# Altium schematic symbol library dungvh03-CERN_AnalogInterface.SchLib: 1053 symbols (part 10 of 12)
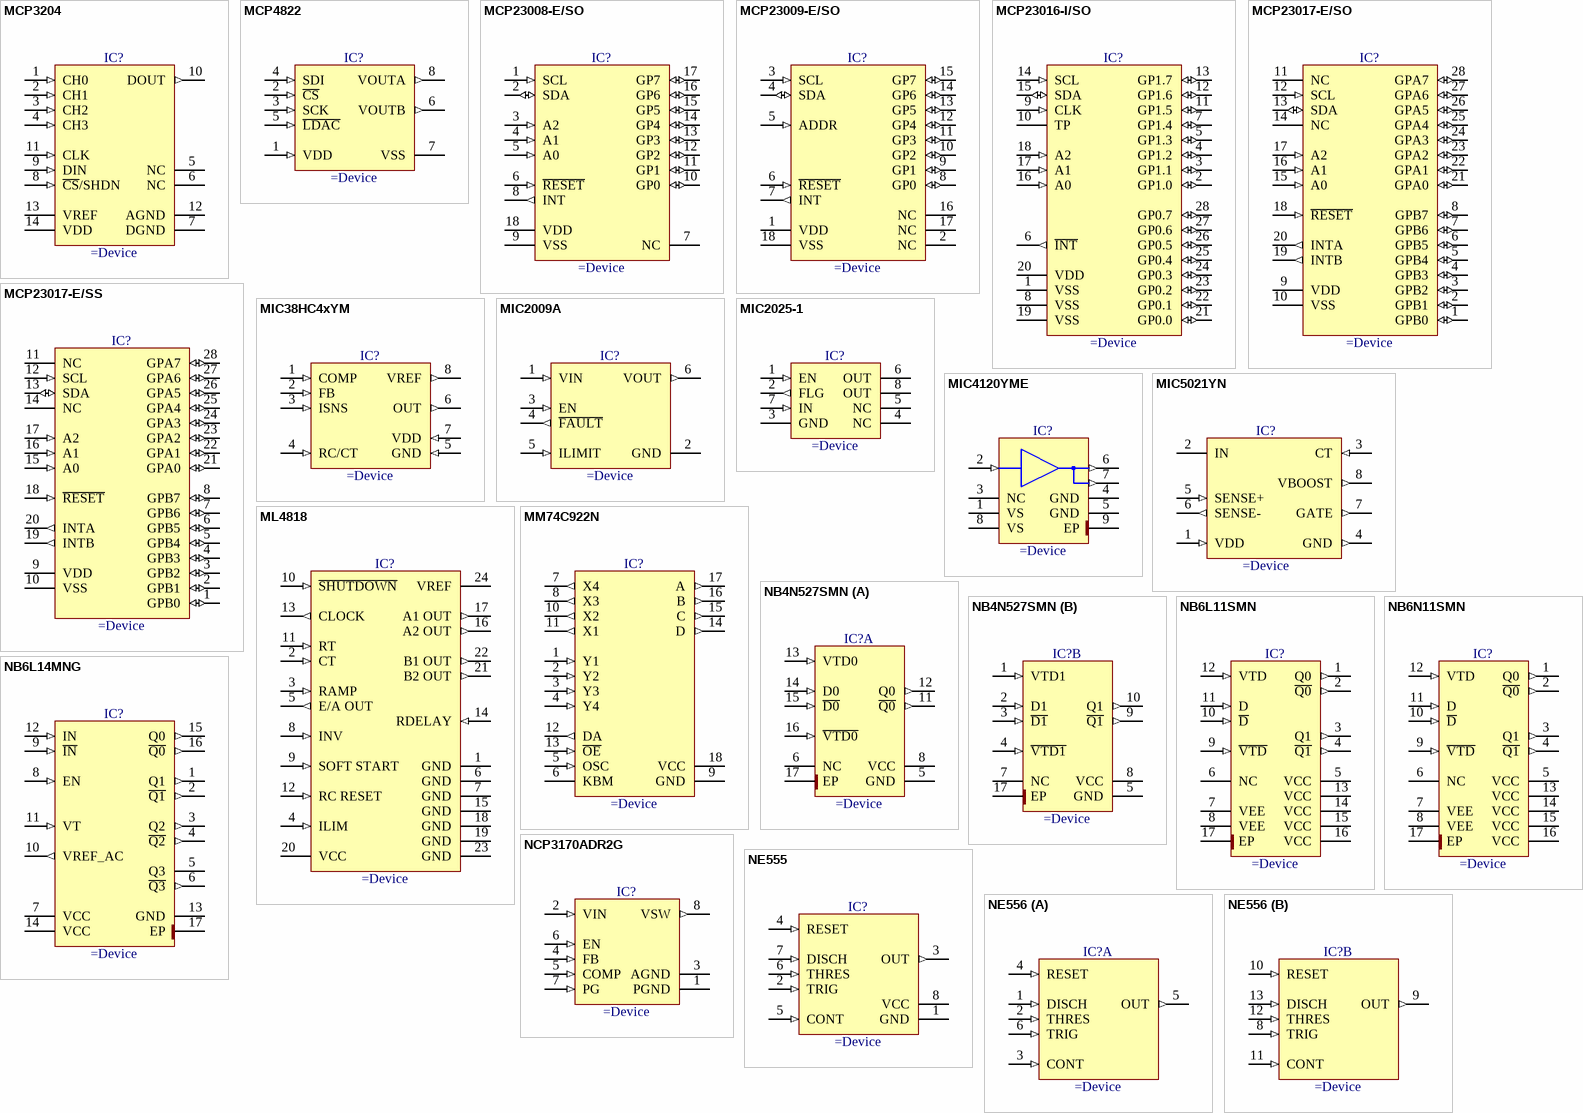
[diagram p76: symbols MCP3204 to NE556]

## MIC2009A
designator IC?
Adjustable Current Limiting Power Distribution Switches
pins: 1 VIN (in), 2 GND (power), 3 EN (in), 4 ~{FAULT} (out), 5 ILIMIT (in), 6 VOUT (out)

## MIC2025-1
designator IC?
Single-Channel Power Distribution Switch MM8®
pins: 1 EN (in), 2 FLG (out), 3 GND (power), 4 NC, 5 NC, 6 OUT (power), 7 IN (in), 8 OUT (power)

## MIC4120YME
designator IC?
6A Peak Low-Side MOSFET Driver, Non-Inverting Outputs
pins: 1 VS (power), 2 IN (in), 3 NC, 4 GND (power), 5 GND (power), 6 OUT (out), 7 OUT (out), 8 VS (power), 9 EP (power)

## MIC5021YN
designator IC?
High-Speed High-Side MOSFET Driver
pins: 1 VDD (in), 2 IN (power), 3 CT (in), 4 GND (out), 5 SENSE+ (in), 6 SENSE- (out), 7 GATE (out), 8 VBOOST (out)

## ML4818
designator IC?
Phase Modulation/Soft Switching Controller
pins: 1 GND (power), 2 CT (in), 3 RAMP (in), 4 ILIM (in), 5 E/A OUT (out), 6 GND (power), 7 GND (power), 8 INV (in), 9 SOFT START (in), 10 ~{SHUTDOWN} (in), 11 RT (in), 12 RC RESET (in), 13 CLOCK (out), 14 RDELAY (in), 15 GND (power), 16 A2 OUT (out), 17 A1 OUT (out), 18 GND (power), 19 GND (power), 20 VCC (power), 21 B2 OUT (out), 22 B1 OUT (out), 23 GND (power), 24 VREF (power)

## MM74C922N
designator IC?
16-Key Encoder
pins: 1 Y1 (in), 2 Y2 (in), 3 Y3 (in), 4 Y4 (in), 5 OSC (in), 6 KBM, 7 X4 (out), 8 X3 (out), 9 GND (power), 10 X2 (out), 11 X1 (out), 12 DA (out), 13 ~{OE} (in), 14 D (out), 15 C (out), 16 B (out), 17 A (out), 18 VCC (power)

## NB4N527SMN
designator IC?
3.3V, 2.5Gb/s Dual Any Level to LVDS Receiver/Driver/Buffer/Translator With Internal Input Termination
pins on every part: 5 GND (power), 8 VCC (power), 17 EP (power)
part A pins: 6 NC, 11 ~{Q0} (out), 12 Q0 (out), 13 VTD0 (in), 14 D0 (in), 15 ~{D0} (in), 16 ~{VTD0} (in)
part B pins: 1 VTD1 (in), 2 D1 (in), 3 ~{D1} (in), 4 ~{VTD1} (in), 7 NC, 9 ~{Q1} (out), 10 Q1 (out)

## NB6L11SMN
designator IC?
2.5V 1:2 AnyLevel Input to LVDS Fanout Buffer / Translator
pins: 1 Q0 (out), 2 ~{Q0} (out), 3 Q1 (out), 4 ~{Q1} (out), 5 VCC (power), 6 NC, 7 VEE (power), 8 VEE (power), 9 ~{VTD} (in), 10 ~{D} (in), 11 D (in), 12 VTD (in), 13 VCC (power), 14 VCC (power), 15 VCC (power), 16 VCC (power), 17 EP (power)

## NB6L14MNG
designator IC?
2.5V/3.3V 3.0GHz Differential 1:4 LVPECL Fanout Buffer
pins: 1 Q1 (out), 2 ~{Q1} (out), 3 Q2 (out), 4 ~{Q2} (out), 5 Q3 (power), 6 ~{Q3} (out), 7 VCC (power), 8 EN (in), 9 ~{IN} (in), 10 VREF_AC (out), 11 VT (in), 12 IN (in), 13 GND (power), 14 VCC (power), 15 Q0 (out), 16 ~{Q0} (out), 17 EP (power)

## NB6N11SMN
designator IC?
3.3V 1:2 AnyLevel Input to LVDS Fanout Buffer / Translator
pins: 1 Q0 (out), 2 ~{Q0} (out), 3 Q1 (out), 4 ~{Q1} (out), 5 VCC (power), 6 NC, 7 VEE (power), 8 VEE (power), 9 ~{VTD} (in), 10 ~{D} (in), 11 D (in), 12 VTD (in), 13 VCC (power), 14 VCC (power), 15 VCC (power), 16 VCC (power), 17 EP (power)

## NCP3170ADR2G
designator IC?
Synchronous PWM Switching Converter
pins: 1 PGND (power), 2 VIN (in), 3 AGND (power), 4 FB (in), 5 COMP (in), 6 EN (in), 7 PG (in), 8 VSW (out)

## NE555
designator IC?
Precision Timer
pins: 1 GND (power), 2 TRIG (in), 3 OUT (out), 4 RESET (in), 5 CONT (in), 6 THRES (in), 7 DISCH (in), 8 VCC (power)

## NE556
designator IC?
Dual Precision Timer
pins on every part: 7 GND (power) hidden to GND, 14 VCC (power) hidden to VCC
part A pins: 1 DISCH (in), 2 THRES (in), 3 CONT (in), 4 RESET (in), 5 OUT (out), 6 TRIG (in)
part B pins: 8 TRIG (in), 9 OUT (out), 10 RESET (in), 11 CONT (in), 12 THRES (in), 13 DISCH (in)

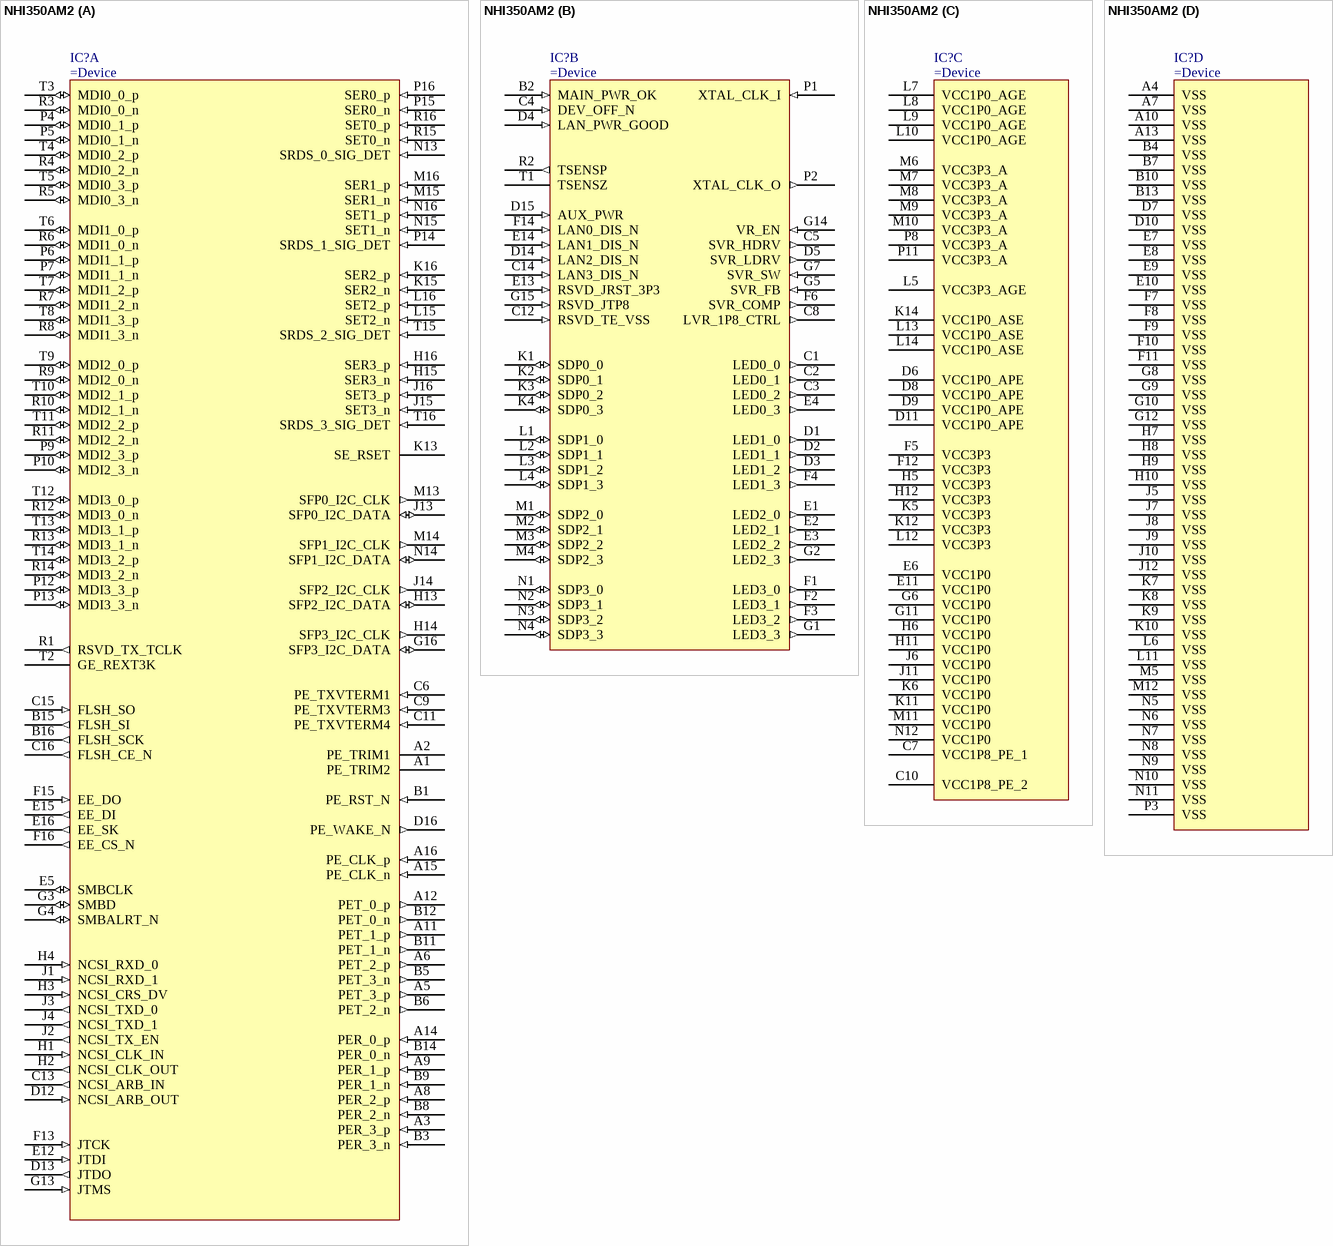
[diagram p52: symbol NHI350AM2]

## NHI350AM2
designator IC?
Ethernet Controller I350
part A pins: A1 PE_TRIM2, A2 PE_TRIM1, A3 PER_3_p (in), A5 PET_3_p (out), A6 PET_2_p (out), A8 PER_2_p (in), A9 PER_1_p (in), A11 PET_1_p (out), A12 PET_0_p (out), A14 PER_0_p (in), A15 PE_CLK_n (in), A16 PE_CLK_p (in), B1 PE_RST_N (in), B3 PER_3_n (in), B5 PET_3_n (out), B6 PET_2_n (out), B8 PER_2_n (in), B9 PER_1_n (in), B11 PET_1_n (out), B12 PET_0_n (out), B14 PER_0_n (in), B15 FLSH_SI (out), B16 FLSH_SCK (out), C6 PE_TXVTERM1 (in), C9 PE_TXVTERM3 (in), C11 PE_TXVTERM4 (in), C13 NCSI_ARB_IN (out), C15 FLSH_SO (in), C16 FLSH_CE_N (out), D12 NCSI_ARB_OUT (in), D13 JTDO (out), D16 PE_WAKE_N (out), E5 SMBCLK (io), E12 JTDI (in), E15 EE_DI (out), E16 EE_SK (out), F13 JTCK (in), F15 EE_DO (in), F16 EE_CS_N (out), G3 SMBD (io), G4 SMBALRT_N (io), G13 JTMS (in), G16 SFP3_I2C_DATA (io), H1 NCSI_CLK_IN (in), H2 NCSI_CLK_OUT (out), H3 NCSI_CRS_DV (in), H4 NCSI_RXD_0 (in), H13 SFP2_I2C_DATA (io), H14 SFP3_I2C_CLK (out), H15 SER3_n (in), H16 SER3_p (in), J1 NCSI_RXD_1 (in), J2 NCSI_TX_EN (out), J3 NCSI_TXD_0 (out), J4 NCSI_TXD_1 (out), J13 SFP0_I2C_DATA (io), J14 SFP2_I2C_CLK (out), J15 SET3_n (in), J16 SET3_p (in), K13 SE_RSET, K15 SER2_n (in), K16 SER2_p (in), L15 SET2_n (in), L16 SET2_p (in), M13 SFP0_I2C_CLK (out), M14 SFP1_I2C_CLK (out), M15 SER1_n (in), M16 SER1_p (in), N13 SRDS_0_SIG_DET (in), N14 SFP1_I2C_DATA (io), N15 SET1_n (in), N16 SET1_p (in), P4 MDI0_1_p (io), P5 MDI0_1_n (io), P6 MDI1_1_p (io), P7 MDI1_1_n (io), P9 MDI2_3_p (io), P10 MDI2_3_n (io), P12 MDI3_3_p (io), P13 MDI3_3_n (io), P14 SRDS_1_SIG_DET (in), P15 SER0_n (in), P16 SER0_p (in), R1 RSVD_TX_TCLK (out), R3 MDI0_0_n (io), R4 MDI0_2_n (io), R5 MDI0_3_n (io), R6 MDI1_0_n (io), R7 MDI1_2_n (io), R8 MDI1_3_n (io), R9 MDI2_0_n (io), R10 MDI2_1_n (io), R11 MDI2_2_n (io), R12 MDI3_0_n (io), R13 MDI3_1_n (io), R14 MDI3_2_n (io), R15 SET0_n (in), R16 SET0_p (in), T2 GE_REXT3K, T3 MDI0_0_p (io), T4 MDI0_2_p (io), T5 MDI0_3_p (io), T6 MDI1_0_p (io), T7 MDI1_2_p (io), T8 MDI1_3_p (io), T9 MDI2_0_p (io), T10 MDI2_1_p (io), T11 MDI2_2_p (io), T12 MDI3_0_p (io), T13 MDI3_1_p (io), T14 MDI3_2_p (io), T15 SRDS_2_SIG_DET (in), T16 SRDS_3_SIG_DET (in)
part B pins: B2 MAIN_PWR_OK (in), C1 LED0_0 (out), C2 LED0_1 (out), C3 LED0_2 (out), C4 DEV_OFF_N (in), C5 SVR_HDRV (out), C8 LVR_1P8_CTRL (out), C12 RSVD_TE_VSS (in), C14 LAN3_DIS_N (in), D1 LED1_0 (out), D2 LED1_1 (out), D3 LED1_2 (out), D4 LAN_PWR_GOOD (in), D5 SVR_LDRV (out), D14 LAN2_DIS_N (in), D15 AUX_PWR (in), E1 LED2_0 (out), E2 LED2_1 (out), E3 LED2_2 (out), E4 LED0_3 (out), E13 RSVD_JRST_3P3 (in), E14 LAN1_DIS_N (in), F1 LED3_0 (out), F2 LED3_1 (out), F3 LED3_2 (out), F4 LED1_3 (out), F6 SVR_COMP (out), F14 LAN0_DIS_N (in), G1 LED3_3 (out), G2 LED2_3 (out), G5 SVR_FB (in), G7 SVR_SW (in), G14 VR_EN (in), G15 RSVD_JTP8 (in), K1 SDP0_0 (io), K2 SDP0_1 (io), K3 SDP0_2 (io), K4 SDP0_3 (io), L1 SDP1_0 (io), L2 SDP1_1 (io), L3 SDP1_2 (io), L4 SDP1_3 (io), M1 SDP2_0 (io), M2 SDP2_1 (io), M3 SDP2_2 (io), M4 SDP2_3 (io), N1 SDP3_0 (io), N2 SDP3_1 (io), N3 SDP3_2 (io), N4 SDP3_3 (io), P1 XTAL_CLK_I (in), P2 XTAL_CLK_O (out), R2 TSENSP (out), T1 TSENSZ (power)
part C pins: C7 VCC1P8_PE_1 (power), C10 VCC1P8_PE_2 (power), D6 VCC1P0_APE (power), D8 VCC1P0_APE (power), D9 VCC1P0_APE (power), D11 VCC1P0_APE (power), E6 VCC1P0 (power), E11 VCC1P0 (power), F5 VCC3P3 (power), F12 VCC3P3 (power), G6 VCC1P0 (power), G11 VCC1P0 (power), H5 VCC3P3 (power), H6 VCC1P0 (power), H11 VCC1P0 (power), H12 VCC3P3 (power), J6 VCC1P0 (power), J11 VCC1P0 (power), K5 VCC3P3 (power), K6 VCC1P0 (power), K11 VCC1P0 (power), K12 VCC3P3 (power), K14 VCC1P0_ASE (power), L5 VCC3P3_AGE (power), L7 VCC1P0_AGE (power), L8 VCC1P0_AGE (power), L9 VCC1P0_AGE (power), L10 VCC1P0_AGE (power), L12 VCC3P3 (power), L13 VCC1P0_ASE (power), L14 VCC1P0_ASE (power), M6 VCC3P3_A (power), M7 VCC3P3_A (power), M8 VCC3P3_A (power), M9 VCC3P3_A (power), M10 VCC3P3_A (power), M11 VCC1P0 (power), N12 VCC1P0 (power), P8 VCC3P3_A (power), P11 VCC3P3_A (power)
part D pins: A4 VSS (power), A7 VSS (power), A10 VSS (power), A13 VSS (power), B4 VSS (power), B7 VSS (power), B10 VSS (power), B13 VSS (power), D7 VSS (power), D10 VSS (power), E7 VSS (power), E8 VSS (power), E9 VSS (power), E10 VSS (power), F7 VSS (power), F8 VSS (power), F9 VSS (power), F10 VSS (power), F11 VSS (power), G8 VSS (power), G9 VSS (power), G10 VSS (power), G12 VSS (power), H7 VSS (power), H8 VSS (power), H9 VSS (power), H10 VSS (power), J5 VSS (power), J7 VSS (power), J8 VSS (power), J9 VSS (power), J10 VSS (power), J12 VSS (power), K7 VSS (power), K8 VSS (power), K9 VSS (power), K10 VSS (power), L6 VSS (power), L11 VSS (power), M5 VSS (power), M12 VSS (power), N5 VSS (power), N6 VSS (power), N7 VSS (power), N8 VSS (power), N9 VSS (power), N10 VSS (power), N11 VSS (power), P3 VSS (power)

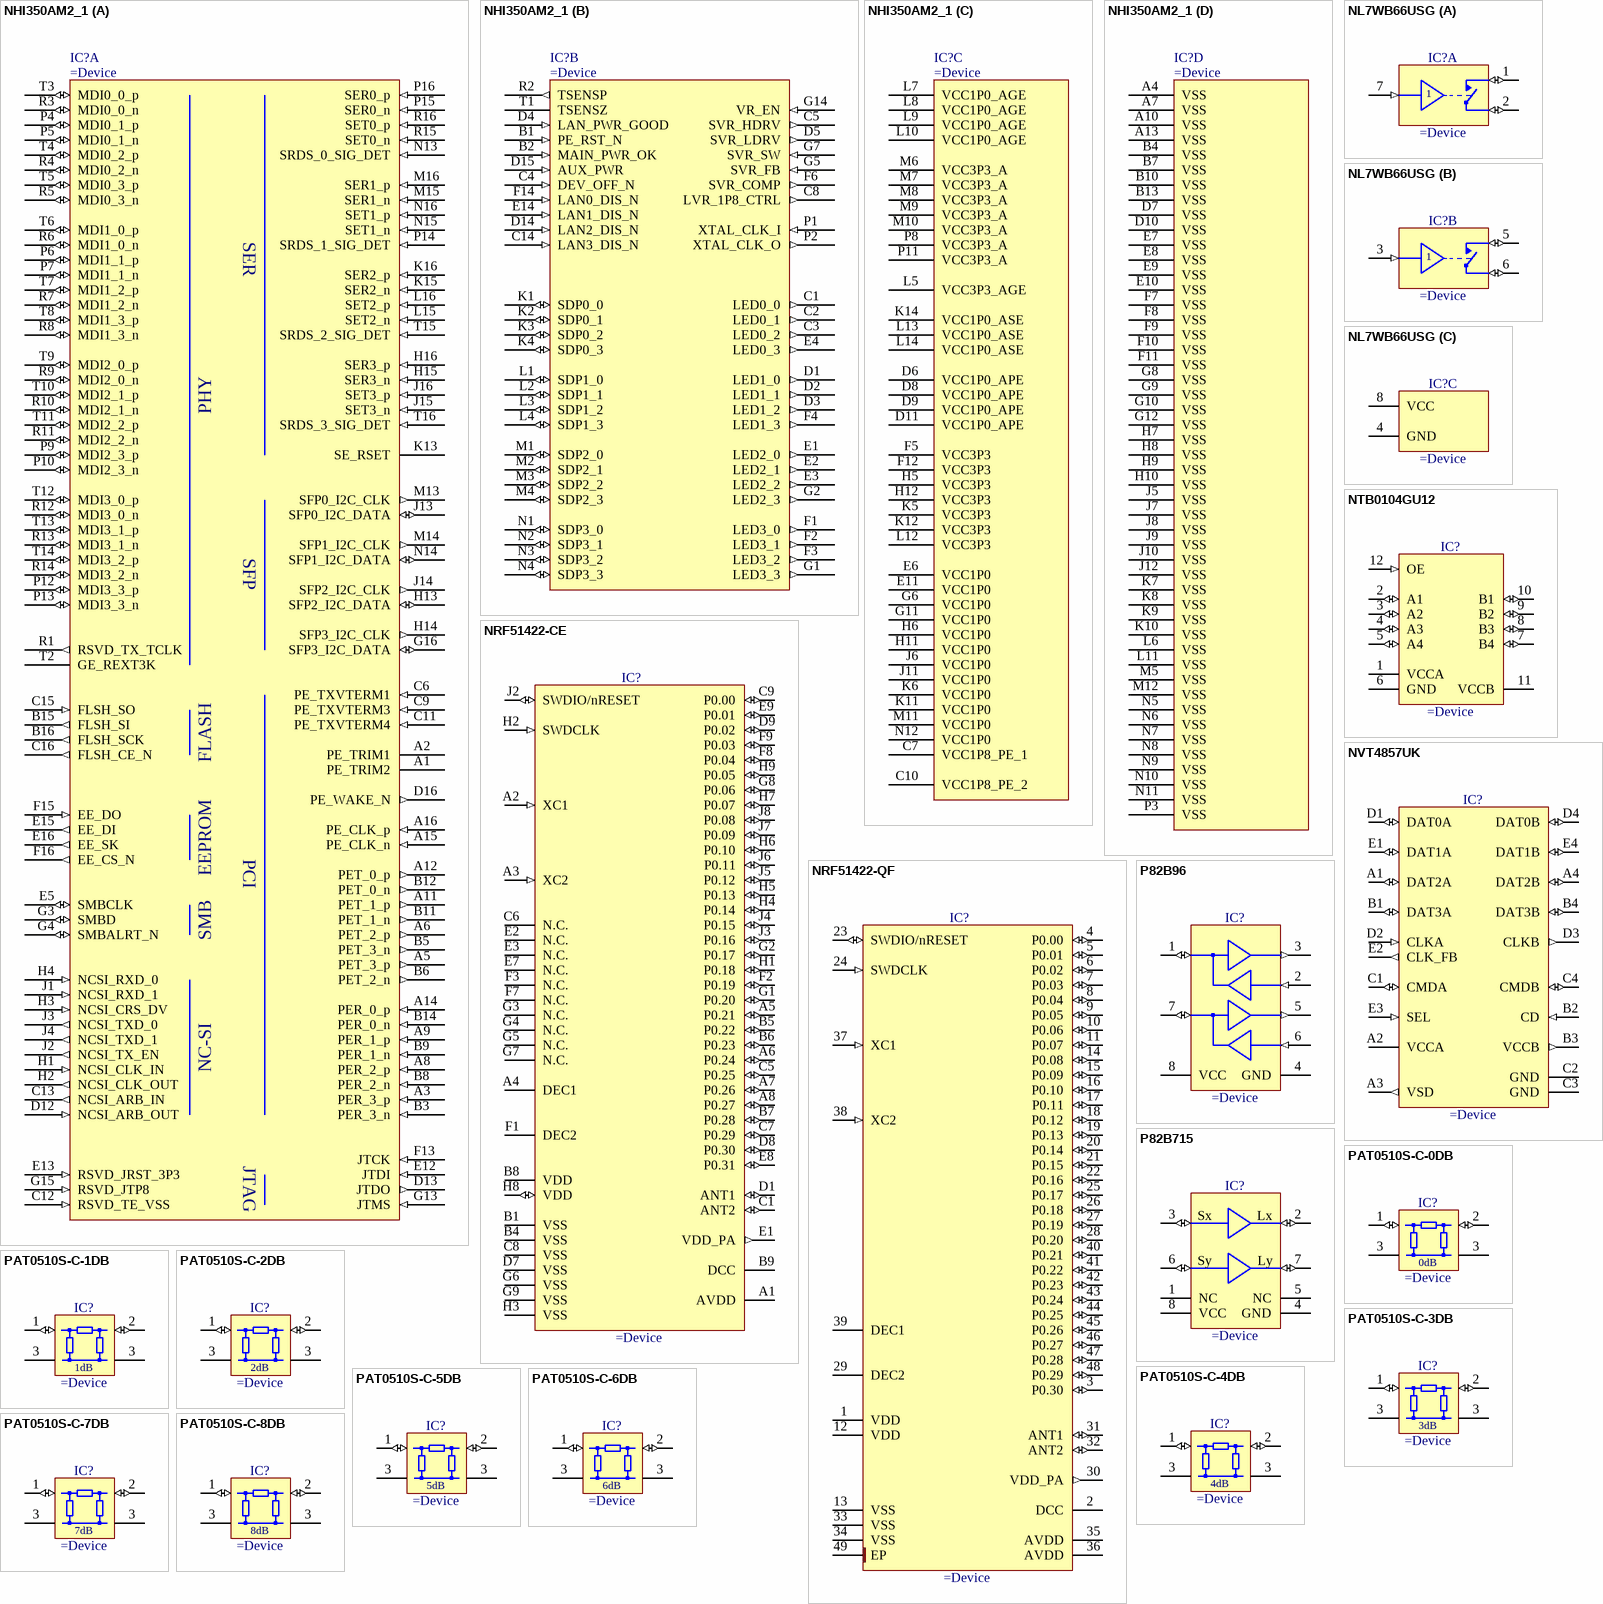
[diagram p53: symbols NHI350AM2_1 to PAT0510S-C-8DB]

## NHI350AM2_1
designator IC?
Ethernet Controller I350
part A pins: A1 PE_TRIM2, A2 PE_TRIM1, A3 PER_3_p (in), A5 PET_3_p (out), A6 PET_2_p (out), A8 PER_2_p (in), A9 PER_1_p (in), A11 PET_1_p (out), A12 PET_0_p (out), A14 PER_0_p (in), A15 PE_CLK_n (in), A16 PE_CLK_p (in), B3 PER_3_n (in), B5 PET_3_n (out), B6 PET_2_n (out), B8 PER_2_n (in), B9 PER_1_n (in), B11 PET_1_n (out), B12 PET_0_n (out), B14 PER_0_n (in), B15 FLSH_SI (out), B16 FLSH_SCK (out), C6 PE_TXVTERM1 (in), C9 PE_TXVTERM3 (in), C11 PE_TXVTERM4 (in), C12 RSVD_TE_VSS (in), C13 NCSI_ARB_IN (out), C15 FLSH_SO (in), C16 FLSH_CE_N (out), D12 NCSI_ARB_OUT (in), D13 JTDO (out), D16 PE_WAKE_N (out), E5 SMBCLK (io), E12 JTDI (in), E13 RSVD_JRST_3P3 (in), E15 EE_DI (out), E16 EE_SK (out), F13 JTCK (in), F15 EE_DO (in), F16 EE_CS_N (out), G3 SMBD (io), G4 SMBALRT_N (io), G13 JTMS (in), G15 RSVD_JTP8 (in), G16 SFP3_I2C_DATA (io), H1 NCSI_CLK_IN (in), H2 NCSI_CLK_OUT (out), H3 NCSI_CRS_DV (in), H4 NCSI_RXD_0 (in), H13 SFP2_I2C_DATA (io), H14 SFP3_I2C_CLK (out), H15 SER3_n (in), H16 SER3_p (in), J1 NCSI_RXD_1 (in), J2 NCSI_TX_EN (out), J3 NCSI_TXD_0 (out), J4 NCSI_TXD_1 (out), J13 SFP0_I2C_DATA (io), J14 SFP2_I2C_CLK (out), J15 SET3_n (in), J16 SET3_p (in), K13 SE_RSET, K15 SER2_n (in), K16 SER2_p (in), L15 SET2_n (in), L16 SET2_p (in), M13 SFP0_I2C_CLK (out), M14 SFP1_I2C_CLK (out), M15 SER1_n (in), M16 SER1_p (in), N13 SRDS_0_SIG_DET (in), N14 SFP1_I2C_DATA (io), N15 SET1_n (in), N16 SET1_p (in), P4 MDI0_1_p (io), P5 MDI0_1_n (io), P6 MDI1_1_p (io), P7 MDI1_1_n (io), P9 MDI2_3_p (io), P10 MDI2_3_n (io), P12 MDI3_3_p (io), P13 MDI3_3_n (io), P14 SRDS_1_SIG_DET (in), P15 SER0_n (in), P16 SER0_p (in), R1 RSVD_TX_TCLK (out), R3 MDI0_0_n (io), R4 MDI0_2_n (io), R5 MDI0_3_n (io), R6 MDI1_0_n (io), R7 MDI1_2_n (io), R8 MDI1_3_n (io), R9 MDI2_0_n (io), R10 MDI2_1_n (io), R11 MDI2_2_n (io), R12 MDI3_0_n (io), R13 MDI3_1_n (io), R14 MDI3_2_n (io), R15 SET0_n (in), R16 SET0_p (in), T2 GE_REXT3K, T3 MDI0_0_p (io), T4 MDI0_2_p (io), T5 MDI0_3_p (io), T6 MDI1_0_p (io), T7 MDI1_2_p (io), T8 MDI1_3_p (io), T9 MDI2_0_p (io), T10 MDI2_1_p (io), T11 MDI2_2_p (io), T12 MDI3_0_p (io), T13 MDI3_1_p (io), T14 MDI3_2_p (io), T15 SRDS_2_SIG_DET (in), T16 SRDS_3_SIG_DET (in)
part B pins: B1 PE_RST_N (in), B2 MAIN_PWR_OK (in), C1 LED0_0 (out), C2 LED0_1 (out), C3 LED0_2 (out), C4 DEV_OFF_N (in), C5 SVR_HDRV (out), C8 LVR_1P8_CTRL (out), C14 LAN3_DIS_N (in), D1 LED1_0 (out), D2 LED1_1 (out), D3 LED1_2 (out), D4 LAN_PWR_GOOD (in), D5 SVR_LDRV (out), D14 LAN2_DIS_N (in), D15 AUX_PWR (in), E1 LED2_0 (out), E2 LED2_1 (out), E3 LED2_2 (out), E4 LED0_3 (out), E14 LAN1_DIS_N (in), F1 LED3_0 (out), F2 LED3_1 (out), F3 LED3_2 (out), F4 LED1_3 (out), F6 SVR_COMP (out), F14 LAN0_DIS_N (in), G1 LED3_3 (out), G2 LED2_3 (out), G5 SVR_FB (in), G7 SVR_SW (in), G14 VR_EN (in), K1 SDP0_0 (io), K2 SDP0_1 (io), K3 SDP0_2 (io), K4 SDP0_3 (io), L1 SDP1_0 (io), L2 SDP1_1 (io), L3 SDP1_2 (io), L4 SDP1_3 (io), M1 SDP2_0 (io), M2 SDP2_1 (io), M3 SDP2_2 (io), M4 SDP2_3 (io), N1 SDP3_0 (io), N2 SDP3_1 (io), N3 SDP3_2 (io), N4 SDP3_3 (io), P1 XTAL_CLK_I (in), P2 XTAL_CLK_O (out), R2 TSENSP (out), T1 TSENSZ (power)
part C pins: C7 VCC1P8_PE_1 (power), C10 VCC1P8_PE_2 (power), D6 VCC1P0_APE (power), D8 VCC1P0_APE (power), D9 VCC1P0_APE (power), D11 VCC1P0_APE (power), E6 VCC1P0 (power), E11 VCC1P0 (power), F5 VCC3P3 (power), F12 VCC3P3 (power), G6 VCC1P0 (power), G11 VCC1P0 (power), H5 VCC3P3 (power), H6 VCC1P0 (power), H11 VCC1P0 (power), H12 VCC3P3 (power), J6 VCC1P0 (power), J11 VCC1P0 (power), K5 VCC3P3 (power), K6 VCC1P0 (power), K11 VCC1P0 (power), K12 VCC3P3 (power), K14 VCC1P0_ASE (power), L5 VCC3P3_AGE (power), L7 VCC1P0_AGE (power), L8 VCC1P0_AGE (power), L9 VCC1P0_AGE (power), L10 VCC1P0_AGE (power), L12 VCC3P3 (power), L13 VCC1P0_ASE (power), L14 VCC1P0_ASE (power), M6 VCC3P3_A (power), M7 VCC3P3_A (power), M8 VCC3P3_A (power), M9 VCC3P3_A (power), M10 VCC3P3_A (power), M11 VCC1P0 (power), N12 VCC1P0 (power), P8 VCC3P3_A (power), P11 VCC3P3_A (power)
part D pins: A4 VSS (power), A7 VSS (power), A10 VSS (power), A13 VSS (power), B4 VSS (power), B7 VSS (power), B10 VSS (power), B13 VSS (power), D7 VSS (power), D10 VSS (power), E7 VSS (power), E8 VSS (power), E9 VSS (power), E10 VSS (power), F7 VSS (power), F8 VSS (power), F9 VSS (power), F10 VSS (power), F11 VSS (power), G8 VSS (power), G9 VSS (power), G10 VSS (power), G12 VSS (power), H7 VSS (power), H8 VSS (power), H9 VSS (power), H10 VSS (power), J5 VSS (power), J7 VSS (power), J8 VSS (power), J9 VSS (power), J10 VSS (power), J12 VSS (power), K7 VSS (power), K8 VSS (power), K9 VSS (power), K10 VSS (power), L6 VSS (power), L11 VSS (power), M5 VSS (power), M12 VSS (power), N5 VSS (power), N6 VSS (power), N7 VSS (power), N8 VSS (power), N9 VSS (power), N10 VSS (power), N11 VSS (power), P3 VSS (power)
part A text: SER; PHY; SFP; FLASH; EEPROM; PCI; SMB; NC-SI; JTAG

## NL7WB66USG
designator IC?
Dual Ultra-Small SPDT Analog Switch
part A pins: 1 NO1 (io), 2 COM1 (io), 7 OE1 (in)
part B pins: 3 OE2 (in), 5 NO2 (io), 6 COM2 (io)
part C pins: 4 GND (power), 8 VCC (power)

## NRF51422-CE
designator IC?
ANT and ANT/Bluetooth Low Energy Multiprotocol SoC
pins: A1 AVDD (power), A2 XC1 (in), A3 XC2 (in), A4 DEC1 (power), A5 P0.21 (io), A6 P0.24 (io), A7 P0.26 (io), A8 P0.27 (io), B1 VSS (power), B4 VSS (power), B5 P0.22 (io), B6 P0.23 (io), B7 P0.28 (io), B8 VDD (power), B9 DCC (power), C1 ANT2 (io), C5 P0.25 (io), C6 N.C., C7 P0.29 (io), C8 VSS (power), C9 P0.00 (io), D1 ANT1 (io), D7 VSS (power), D8 P0.30 (io), D9 P0.02 (io), E1 VDD_PA (out), E2 N.C., E3 N.C., E7 N.C., E8 P0.31 (io), E9 P0.01 (io), F1 DEC2 (power), F2 P0.19 (io), F3 N.C., F7 N.C., F8 P0.04 (io), F9 P0.03 (io), G1 P0.20 (io), G2 P0.17 (io), G3 N.C., G4 N.C., G5 N.C., G6 VSS (power), G7 N.C., G8 P0.06 (io), G9 VSS (power), H1 P0.18 (io), H2 SWDCLK (in), H3 VSS (power), H4 P0.14 (io), H5 P0.13 (io), H6 P0.10 (io), H7 P0.07 (io), H8 VDD (io), H9 P0.05 (io), J2 SWDIO/nRESET (io), J3 P0.16 (io), J4 P0.15 (io), J5 P0.12 (io), J6 P0.11 (io), J7 P0.09 (io), J8 P0.08 (io)

## NRF51422-QF
designator IC?
ANT and ANT/Bluetooth Low Energy Multiprotocol SoC
pins: 1 VDD (power), 2 DCC (power), 3 P0.30 (io), 4 P0.00 (io), 5 P0.01 (io), 6 P0.02 (io), 7 P0.03 (io), 8 P0.04 (io), 9 P0.05 (io), 10 P0.06 (io), 11 P0.07 (io), 12 VDD (power), 13 VSS (power), 14 P0.08 (io), 15 P0.09 (io), 16 P0.10 (io), 17 P0.11 (io), 18 P0.12 (io), 19 P0.13 (io), 20 P0.14 (io), 21 P0.15 (io), 22 P0.16 (io), 23 SWDIO/nRESET (io), 24 SWDCLK (in), 25 P0.17 (io), 26 P0.18 (io), 27 P0.19 (io), 28 P0.20 (io), 29 DEC2 (power), 30 VDD_PA (out), 31 ANT1 (io), 32 ANT2 (io), 33 VSS (power), 34 VSS (power), 35 AVDD (power), 36 AVDD (power), 37 XC1 (in), 38 XC2 (in), 39 DEC1 (power), 40 P0.21 (io), 41 P0.22 (io), 42 P0.23 (io), 43 P0.24 (io), 44 P0.25 (io), 45 P0.26 (io), 46 P0.27 (io), 47 P0.28 (io), 48 P0.29 (io), 49 EP (power)

## NTB0104GU12
designator IC?
Dual Supply Translating Transceiver; Auto Direction Sensing; 3-State
pins: 1 VCCA (power), 2 A1 (io), 3 A2 (io), 4 A3 (io), 5 A4 (io), 6 GND (power), 7 B4 (io), 8 B3 (io), 9 B2 (io), 10 B1 (io), 11 VCCB (power), 12 OE (in)

## NVT4857UK
designator IC?
SD 3.0-SDR104 Compliant Integrated Auto-Direction Control Memory Card Voltage Level Translator With EMI Filter And ESD Protection
pins: A1 DAT2A (io), A2 VCCA (power), A3 VSD (out), A4 DAT2B (io), B1 DAT3A (io), B2 CD (in), B3 VCCB (out), B4 DAT3B (io), C1 CMDA (io), C2 GND (power), C3 GND (power), C4 CMDB (io), D1 DAT0A (io), D2 CLKA (in), D3 CLKB (out), D4 DAT0B (io), E1 DAT1A (io), E2 CLK_FB (out), E3 SEL (in), E4 DAT1B (io)

## P82B96
designator IC?
Dual bidirectional bus buffer
pins: 1 Sx (io) "I2C-bus SDA", 2 Rx (in) "Receive Signal", 3 Tx (out) "Transmit Signal", 4 GND (power) "Negative Supply", 5 Ty (out) "Transmit Signal", 6 Ry (in) "Receive Signal", 7 Sy (io) "I2C-bus SCL", 8 VCC (power) "Positive Supply Voltage"

## P82B715
designator IC?
I2C Bus Extender
pins: 1 NC "I2C-bus SDA", 2 Lx (io) "Receive Signal", 3 Sx (io) "Transmit Signal", 4 GND (power) "Negative Supply", 5 NC (oc) "Transmit Signal", 6 Sy (io) "Receive Signal", 7 Ly (io) "I2C-bus SCL", 8 VCC (power) "Positive Supply Voltage"

## PAT0510S-C-0DB
designator IC?
DC to 10GHz, 32mw, 50 Ohm, 0dB, Precision chip attenuator
pins: 1 IN (io), 2 OUT (io), 3 GND, 3 GND
text: 0dB

## PAT0510S-C-1DB
designator IC?
DC to 10GHz, 32mw, 50 Ohm, 1dB, Precision chip attenuator
pins: 1 IN (io), 2 OUT (io), 3 GND, 3 GND
text: 1dB

## PAT0510S-C-2DB
designator IC?
DC to 10GHz, 32mw, 50 Ohm, 2dB, Precision chip attenuator
pins: 1 IN (io), 2 OUT (io), 3 GND, 3 GND
text: 2dB

## PAT0510S-C-3DB
designator IC?
DC to 10GHz, 32mw, 50 Ohm, 3dB, Precision chip attenuator
pins: 1 IN (io), 2 OUT (io), 3 GND, 3 GND
text: 3dB

## PAT0510S-C-4DB
designator IC?
DC to 10GHz, 32mw, 50 Ohm, 4dB, Precision chip attenuator
pins: 1 IN (io), 2 OUT (io), 3 GND, 3 GND
text: 4dB

## PAT0510S-C-5DB
designator IC?
DC to 10GHz, 32mw, 50 Ohm, 5dB, Precision chip attenuator
pins: 1 IN (io), 2 OUT (io), 3 GND, 3 GND
text: 5dB

## PAT0510S-C-6DB
designator IC?
DC to 10GHz, 32mw, 50 Ohm, 6dB, Precision chip attenuator
pins: 1 IN (io), 2 OUT (io), 3 GND, 3 GND
text: 6dB

## PAT0510S-C-7DB
designator IC?
DC to 10GHz, 32mw, 50 Ohm, 7dB, Precision chip attenuator
pins: 1 IN (io), 2 OUT (io), 3 GND, 3 GND
text: 7dB

## PAT0510S-C-8DB
designator IC?
DC to 10GHz, 32mw, 50 Ohm, 8dB, Precision chip attenuator
pins: 1 IN (io), 2 OUT (io), 3 GND, 3 GND
text: 8dB

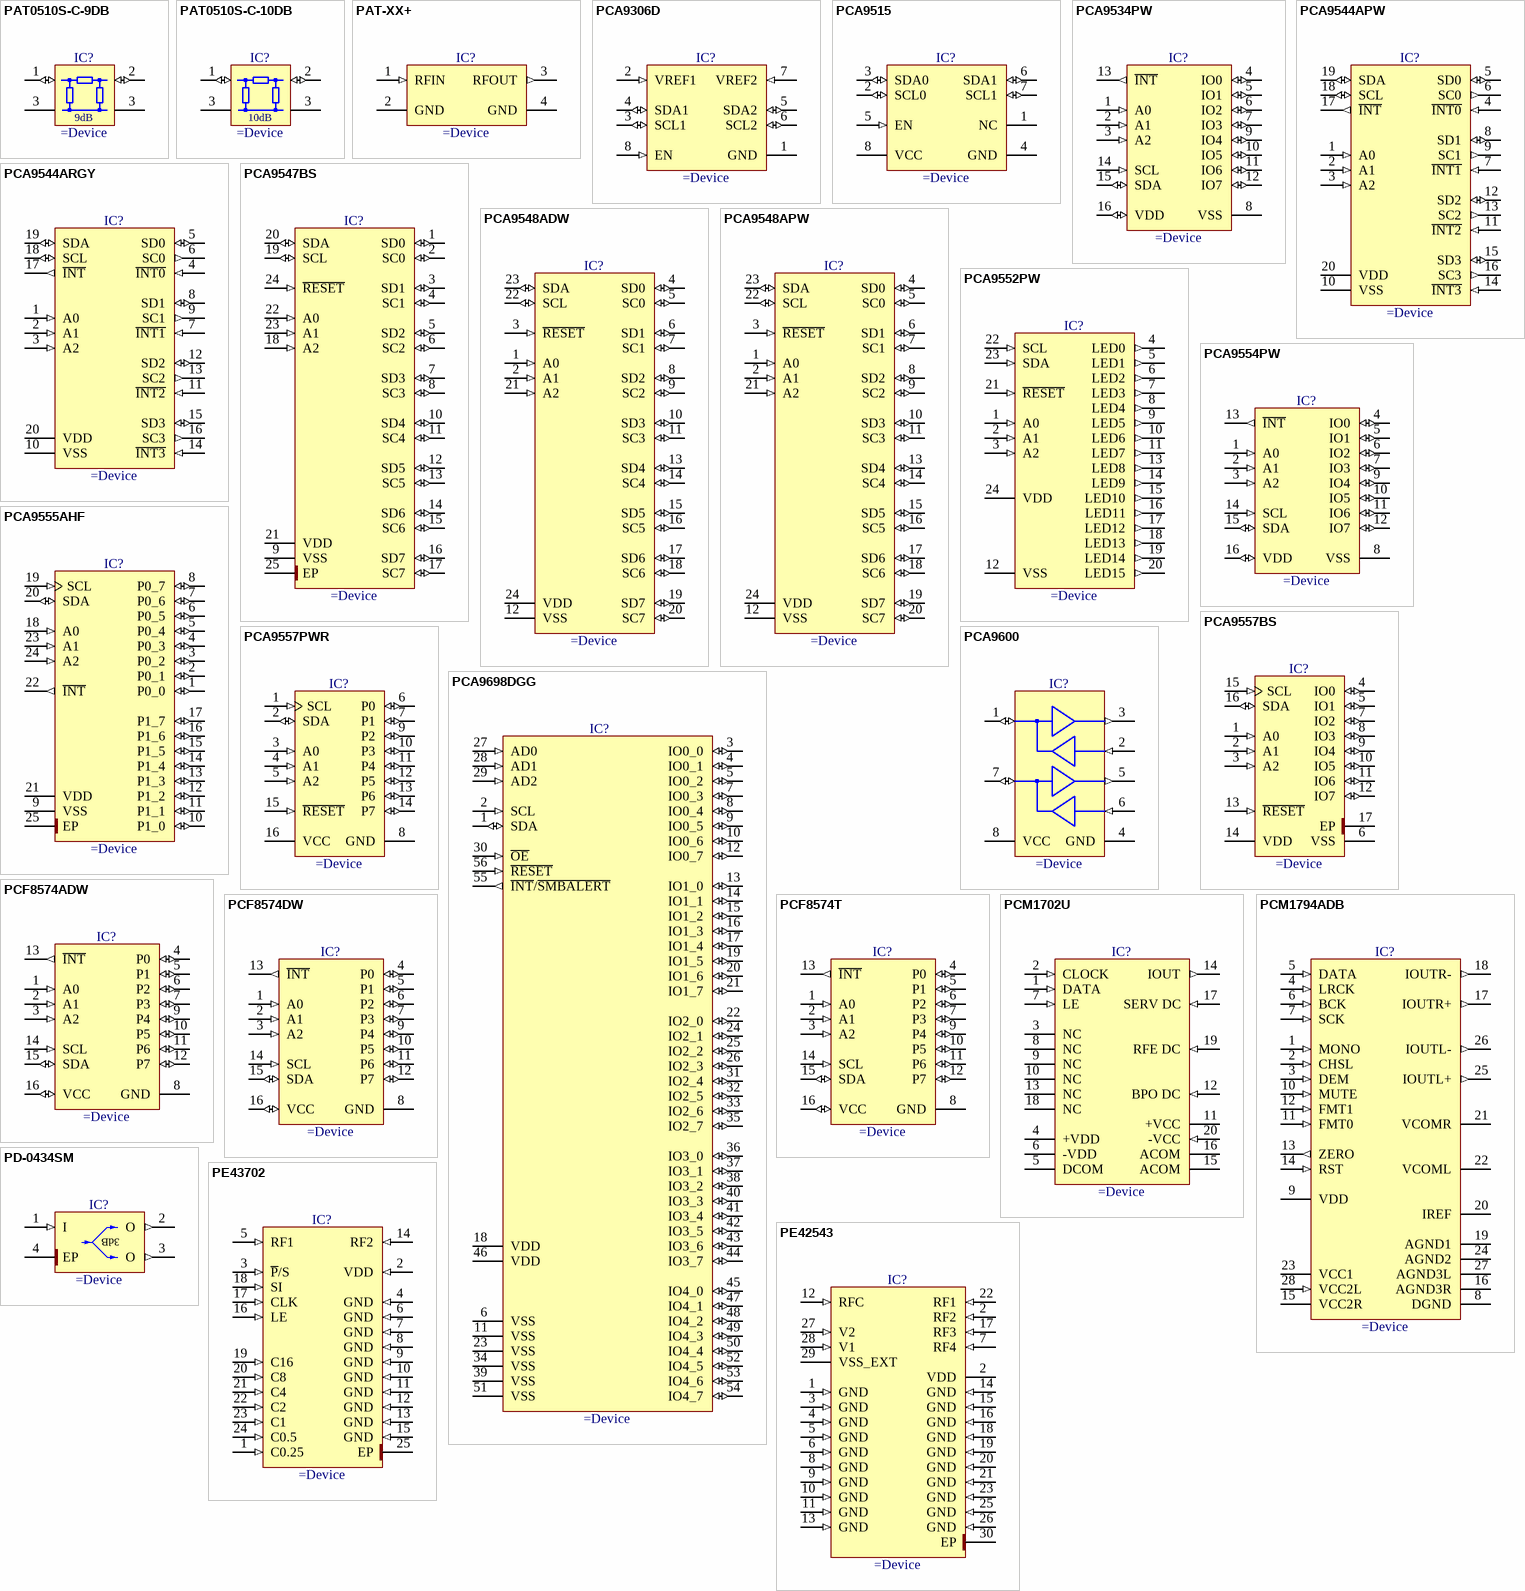
[diagram p54: symbols PAT0510S-C-9DB to PE43702]

## PAT0510S-C-9DB
designator IC?
DC to 10GHz, 32mw, 50 Ohm, 9dB, Precision chip attenuator
pins: 1 IN (io), 2 OUT (io), 3 GND, 3 GND
text: 9dB

## PAT0510S-C-10DB
designator IC?
DC to 10GHz, 32mw, 50 Ohm, 10dB, Precision chip attenuator
pins: 1 IN (io), 2 OUT (io), 3 GND, 3 GND
text: 10dB

## PAT-XX+
designator IC?
DC to 7000MHz, 1W, 50 Ohm, Attenuator
pins: 1 RFIN (in), 2 GND (power), 3 RFOUT (out), 4 GND (power)

## PCA9306D
designator IC?
Dual Bidirectional I2C Bus And SMBus Voltage-Level Translator
pins: 1 GND (power) "I2C-bus SDA", 2 VREF1 (in) "Receive Signal", 3 SCL1 (io) "Transmit Signal", 4 SDA1 (io) "Negative Supply", 5 SDA2 (io) "Transmit Signal", 6 SCL2 (io) "Receive Signal", 7 VREF2 (in) "I2C-bus SCL", 8 EN (in) "Positive Supply Voltage"

## PCA9515
designator IC?
I2C-Bus Repeater
pins: 1 NC "I2C-bus SCL", 2 SCL0 (io) "Transmit Signal", 3 SDA0 (io) "Negative Supply", 4 GND (power) "I2C-bus SDA", 5 EN (in) "Positive Supply Voltage", 6 SDA1 (io) "Transmit Signal", 7 SCL1 (io) "Receive Signal", 8 VCC (power) "Receive Signal"

## PCA9534PW
designator IC?
8-Bit I2C-Bus and SMBus Low Power I/O Port with Interrupt
pins: 1 A0 (in), 2 A1 (in), 3 A2 (in), 4 IO0 (io), 5 IO1 (io), 6 IO2 (io), 7 IO3 (io), 8 VSS (power), 9 IO4 (io), 10 IO5 (io), 11 IO6 (io), 12 IO7 (io), 13 ~{INT} (out), 14 SCL (in), 15 SDA (io), 16 VDD (io)

## PCA9544APW
designator IC?
4-Channel I2C-Bus Multiplexer with Interrupt Logic
pins: 1 A0 (in), 2 A1 (in), 3 A2 (in), 4 ~{INT0} (in), 5 SD0 (io), 6 SC0 (out), 7 ~{INT1} (in), 8 SD1 (io), 9 SC1 (out), 10 VSS (power), 11 ~{INT2} (in), 12 SD2 (io), 13 SC2 (out), 14 ~{INT3} (in), 15 SD3 (io), 16 SC3 (out), 17 ~{INT} (out), 18 SCL (io), 19 SDA (io), 20 VDD (power)

## PCA9544ARGY
designator IC?
4-Channel I2C-Bus Multiplexer with Interrupt Logic
pins: 1 A0 (in), 2 A1 (in), 3 A2 (in), 4 ~{INT0} (in), 5 SD0 (io), 6 SC0 (out), 7 ~{INT1} (in), 8 SD1 (io), 9 SC1 (out), 10 VSS (power), 11 ~{INT2} (in), 12 SD2 (io), 13 SC2 (out), 14 ~{INT3} (in), 15 SD3 (io), 16 SC3 (out), 17 ~{INT} (out), 18 SCL (io), 19 SDA (io), 20 VDD (power)

## PCA9547BS
designator IC?
8-Channel I2C-Bus Multiplexer with Reset
pins: 1 SD0 (io), 2 SC0 (io), 3 SD1 (io), 4 SC1 (io), 5 SD2 (io), 6 SC2 (io), 7 SD3 (io), 8 SC3 (io), 9 VSS (power), 10 SD4 (io), 11 SC4 (io), 12 SD5 (io), 13 SC5 (io), 14 SD6 (io), 15 SC6 (io), 16 SD7 (io), 17 SC7 (io), 18 A2 (in), 19 SCL (io), 20 SDA (io), 21 VDD (power), 22 A0 (in), 23 A1 (in), 24 ~{RESET} (in), 25 EP (power)

## PCA9548ADW
designator IC?
8-Channel I2C-Bus Switch with Reset
pins: 1 A0 (in), 2 A1 (in), 3 ~{RESET} (in), 4 SD0 (io), 5 SC0 (io), 6 SD1 (io), 7 SC1 (io), 8 SD2 (io), 9 SC2 (io), 10 SD3 (io), 11 SC3 (io), 12 VSS (power), 13 SD4 (io), 14 SC4 (io), 15 SD5 (io), 16 SC5 (io), 17 SD6 (io), 18 SC6 (io), 19 SD7 (io), 20 SC7 (io), 21 A2 (in), 22 SCL (io), 23 SDA (io), 24 VDD (power)

## PCA9548APW
designator IC?
8-Channel I2C-Bus Switch with Reset
pins: 1 A0 (in), 2 A1 (in), 3 ~{RESET} (in), 4 SD0 (io), 5 SC0 (io), 6 SD1 (io), 7 SC1 (io), 8 SD2 (io), 9 SC2 (io), 10 SD3 (io), 11 SC3 (io), 12 VSS (power), 13 SD4 (io), 14 SC4 (io), 15 SD5 (io), 16 SC5 (io), 17 SD6 (io), 18 SC6 (io), 19 SD7 (io), 20 SC7 (io), 21 A2 (in), 22 SCL (io), 23 SDA (io), 24 VDD (power)

## PCA9552PW
designator IC?
16-bit I2C-Bus LED Driver with Programmable Blink Rates
pins: 1 A0 (in), 2 A1 (in), 3 A2 (in), 4 LED0 (out), 5 LED1 (out), 6 LED2 (out), 7 LED3 (out), 8 LED4 (out), 9 LED5 (out), 10 LED6 (out), 11 LED7 (out), 12 VSS (power), 13 LED8 (out), 14 LED9 (out), 15 LED10 (out), 16 LED11 (out), 17 LED12 (out), 18 LED13 (out), 19 LED14 (out), 20 LED15 (out), 21 ~{RESET} (in), 22 SCL (in), 23 SDA (in), 24 VDD (power)

## PCA9554PW
designator IC?
8-Bit I2C-Bus and SMBus I/O Port with Interrupt
pins: 1 A0 (in), 2 A1 (in), 3 A2 (in), 4 IO0 (io), 5 IO1 (io), 6 IO2 (io), 7 IO3 (io), 8 VSS (power), 9 IO4 (io), 10 IO5 (io), 11 IO6 (io), 12 IO7 (io), 13 ~{INT} (out), 14 SCL (in), 15 SDA (io), 16 VDD (io)

## PCA9555AHF
designator IC?
Low-Voltage 16-Bit I2C-bus I/O Port With Interrupt and Weak Pull-Up
pins: 1 P0_0 (io) ""P-port input/output. High impedance open-drain design structure. Connect to VCC through a pullup resistor.", 2 P0_1 (io) ""P-port input/output. High impedance open-drain design structure. Connect to VCC through a pullup resistor.", 3 P0_2 (io) ""P-port input/output. High impedance open-drain design structure. Connect to VCC through a pullup resistor.", 4 P0_3 (io) ""P-port input/output. High impedance open-drain design structure. Connect to VCC through a pullup resistor.", 5 P0_4 (io) ""P-port input/output. High impedance open-drain design structure. Connect to VCC through a pullup resistor.", 6 P0_5 (io) ""P-port input/output. High impedance open-drain design structure. Connect to VCC through a pullup resistor.", 7 P0_6 (io) ""P-port input/output. High impedance open-drain design structure. Connect to VCC through a pullup resistor.", 8 P0_7 (io) ""P-port input/output. High impedance open-drain design structure. Connect to VCC through a pullup resistor.", 9 VSS (power) "Ground", 10 P1_0 (io) ""P-port input/output. High impedance open-drain design structure. Connect to VCC through a pullup resistor.", 11 P1_1 (io) ""P-port input/output. High impedance open-drain design structure. Connect to VCC through a pullup resistor.", 12 P1_2 (io) ""P-port input/output. High impedance open-drain design structure. Connect to VCC through a pullup resistor.", 13 P1_3 (io) ""P-port input/output. High impedance open-drain design structure. Connect to VCC through a pullup resistor.", 14 P1_4 (io) ""P-port input/output. High impedance open-drain design structure. Connect to VCC through a pullup resistor.", 15 P1_5 (io) ""P-port input/output. High impedance open-drain design structure. Connect to VCC through a pullup resistor.", 16 P1_6 (io) ""P-port input/output. High impedance open-drain design structure. Connect to VCC through a pullup resistor.", 17 P1_7 (io) ""P-port input/output. High impedance open-drain design structure. Connect to VCC through a pullup resistor.", 18 A0 (in) "Address input. Connect directly to VCC or ground.", 19 SCL (in) "Serial clock bus. Connect to VCC through a pullup resistor.", 20 SDA (io) "Serial data bus. Connect to VCC through a pullup resistor.", 21 VDD (power) "Supply voltage", 22 ~{INT} (out) "Active-low reset input. Connect to VCC  through a pullup resistor, if no active connection is used.", 23 A1 (in) "Address input. Connect directly to VCC or ground.", 24 A2 (in) "Address input. Connect directly to VCC or ground.", 25 EP (power)

## PCA9557BS
designator IC?
8-Bit I2C-bus and SMBus I/O Port with Reset
pins: 1 A0 (in) "address input 0", 2 A1 (in) "address input 1", 3 A2 (in) "address input 2", 4 IO0 (io) "input/output 0 (open-drain)", 5 IO1 (io) "input/output 1", 6 VSS (power) "supply ground", 7 IO2 (io) "input/output 2", 8 IO3 (io) "input/output 3", 9 IO4 (io) "input/output 4", 10 IO5 (io) "input/output 5", 11 IO6 (io) "input/output 6", 12 IO7 (io) "input/output 7", 13 ~{RESET} (in) "active LOW reset input", 14 VDD (power) "supply voltage", 15 SCL (in) "serial clock line", 16 SDA (io) "serial data line", 17 EP (power) "connected to VSS"

## PCA9557PWR
designator IC?
Remote 8-Bit I2C and SMBus Low-Power I/O Expander With Reset and Configuration Registers
pins: 1 SCL (in) "Serial clock bus. Connect to VCC through a pullup resistor.", 2 SDA (io) "Serial data bus. Connect to VCC through a pullup resistor.", 3 A0 (in) "Address input. Connect directly to VCC or ground.", 4 A1 (in) "Address input. Connect directly to VCC or ground.", 5 A2 (in) "Address input. Connect directly to VCC or ground.", 6 P0 (io) ""P-port input/output. High impedance open-drain design structure. Connect to VCC through a pullup resistor.", 7 P1 (io) "P-port input/output. Push-pull design structure.", 8 GND (power) "Ground", 9 P2 (io) "P-port input/output. Push-pull design structure.", 10 P3 (io) "P-port input/output. Push-pull design structure.", 11 P4 (io) "P-port input/output. Push-pull design structure.", 12 P5 (io) "P-port input/output. Push-pull design structure.", 13 P6 (io) "P-port input/output. Push-pull design structure.", 14 P7 (io) "P-port input/output. Push-pull design structure.", 15 ~{RESET} (in) "Active-low reset input. Connect to VCC  through a pullup resistor, if no active connection is used.", 16 VCC (power) "Supply voltage"

## PCA9600
designator IC?
Dual Bidirectional Bus Buffer
pins: 1 Sx (io) "I2C-bus SDA", 2 Rx (in) "Receive Signal", 3 Tx (out) "Transmit Signal", 4 GND (power) "Negative Supply", 5 Ty (out) "Transmit Signal", 6 Ry (in) "Receive Signal", 7 Sy (io) "I2C-bus SCL", 8 VCC (power) "Positive Supply Voltage"

## PCA9698DGG
designator IC?
40-bit Fm+ I2C-bus advanced I/O port with RESET/, OE/ and INT/
pins: 1 SDA (io), 2 SCL (in), 3 IO0_0 (io), 4 IO0_1 (io), 5 IO0_2 (io), 6 VSS (power), 7 IO0_3 (io), 8 IO0_4 (io), 9 IO0_5 (io), 10 IO0_6 (io), 11 VSS (power), 12 IO0_7 (io), 13 IO1_0 (io), 14 IO1_1 (io), 15 IO1_2 (io), 16 IO1_3 (io), 17 IO1_4 (io), 18 VDD (power), 19 IO1_5 (io), 20 IO1_6 (io), 21 IO1_7 (io), 22 IO2_0 (io), 23 VSS (power), 24 IO2_1 (io), 25 IO2_2 (io), 26 IO2_3 (io), 27 AD0 (in), 28 AD1 (in), 29 AD2 (in), 30 ~{OE} (in), 31 IO2_4 (io), 32 IO2_5 (io), 33 IO2_6 (io), 34 VSS (power), 35 IO2_7 (io), 36 IO3_0 (io), 37 IO3_1 (io), 38 IO3_2 (io), 39 VSS (power), 40 IO3_3 (io), 41 IO3_4 (io), 42 IO3_5 (io), 43 IO3_6 (io), 44 IO3_7 (io), 45 IO4_0 (io), 46 VDD (power), 47 IO4_1 (io), 48 IO4_2 (io), 49 IO4_3 (io), 50 IO4_4 (io), 51 VSS (power), 52 IO4_5 (io), 53 IO4_6 (io), 54 IO4_7 (io), 55 ~{INT}/~{SMBALERT} (out), 56 ~{RESET} (in)

## PCF8574ADW
designator IC?
Remote 8-bit I/O Expander For I2C Bus
pins: 1 A0 (in), 2 A1 (in), 3 A2 (in), 4 P0 (io), 5 P1 (io), 6 P2 (io), 7 P3 (io), 8 GND (power), 9 P4 (io), 10 P5 (io), 11 P6 (io), 12 P7 (io), 13 ~{INT} (out), 14 SCL (in), 15 SDA (io), 16 VCC (io)

## PCF8574DW
designator IC?
Remote 8-bit I/O Expander For I2C Bus
pins: 1 A0 (in), 2 A1 (in), 3 A2 (in), 4 P0 (io), 5 P1 (io), 6 P2 (io), 7 P3 (io), 8 GND (power), 9 P4 (io), 10 P5 (io), 11 P6 (io), 12 P7 (io), 13 ~{INT} (out), 14 SCL (in), 15 SDA (io), 16 VCC (io)

## PCF8574T
designator IC?
Remote 8-bit I/O Expander For I2C Bus
pins: 1 A0 (in), 2 A1 (in), 3 A2 (in), 4 P0 (io), 5 P1 (io), 6 P2 (io), 7 P3 (io), 8 GND (power), 9 P4 (io), 10 P5 (io), 11 P6 (io), 12 P7 (io), 13 ~{INT} (out), 14 SCL (in), 15 SDA (io), 16 VCC (io)

## PCM1702U
designator IC?
BiCMOS Advanced Sign Magnitude 20-Bit Digital-to-Analog Converter
pins: 1 DATA (in), 2 CLOCK (in), 3 NC, 4 +VDD (power), 5 DCOM (power), 6 -VDD (power), 7 LE (in), 8 NC, 9 NC, 10 NC, 11 +VCC (power), 12 BPO DC (in), 13 NC, 14 IOUT (out), 15 ACOM (power), 16 ACOM (power), 17 SERV DC (in), 18 NC, 19 RFE DC (in), 20 -VCC (in)

## PCM1794ADB
designator IC?
24-Bit, 192-kHz Sampling, Advanced Segment, Audio Stereo Digital-to-Analog Converter
pins: 1 MONO (in), 2 CHSL (in), 3 DEM (in), 4 LRCK (in), 5 DATA (in), 6 BCK (in), 7 SCK (in), 8 DGND (power), 9 VDD (power), 10 MUTE (in), 11 FMT0 (in), 12 FMT1 (in), 13 ZERO (out), 14 RST (in), 15 VCC2R (power), 16 AGND3R (power), 17 IOUTR+ (out), 18 IOUTR- (out), 19 AGND1 (power), 20 IREF, 21 VCOMR, 22 VCOML, 23 VCC1 (power), 24 AGND2 (power), 25 IOUTL+ (out), 26 IOUTL- (out), 27 AGND3L (power), 28 VCC2L (in)

## PD-0434SM
designator IC?
4 to 34 GHz Wilkinson Power Divider
pins: 1 I (in), 2 O (out), 3 O (out), 4 EP (power)
text: 3dB

## PE42543
designator IC?
50 Ohm, UltraCMOS® SP4T RF Switch 9 kHz–18 GHz
pins: 1 GND (in), 2 VDD (power), 2 RF2 (in), 3 GND (in), 4 GND (in), 5 GND (in), 6 GND (in), 7 RF4 (in), 8 GND (in), 9 GND (in), 10 GND (in), 11 GND (in), 12 RFC (in), 13 GND (in), 14 GND (in), 15 GND (in), 16 GND (in), 17 RF3 (in), 18 GND (in), 19 GND (in), 20 GND (in), 21 GND (in), 22 RF1 (in), 23 GND (in), 25 GND (in), 26 GND (in), 27 V2 (in), 28 V1 (in), 29 VSS_EXT (power), 30 EP (power)

## PE43702
designator IC?
50 Ohm 7-Bit RF Digital Step Attenuator (DSA)
pins: 1 C0.25 (in), 2 VDD (in), 3 ~{P}/S (in), 4 GND (in), 5 RF1 (in), 6 GND (in), 7 GND (in), 8 GND (in), 9 GND (in), 10 GND (in), 11 GND (in), 12 GND (in), 13 GND (in), 14 RF2 (in), 15 GND (in), 16 LE (in), 17 CLK (in), 18 SI (in), 19 C16 (in), 20 C8 (in), 21 C4 (in), 22 C2 (in), 23 C1 (in), 24 C0.5 (in), 25 EP (power)

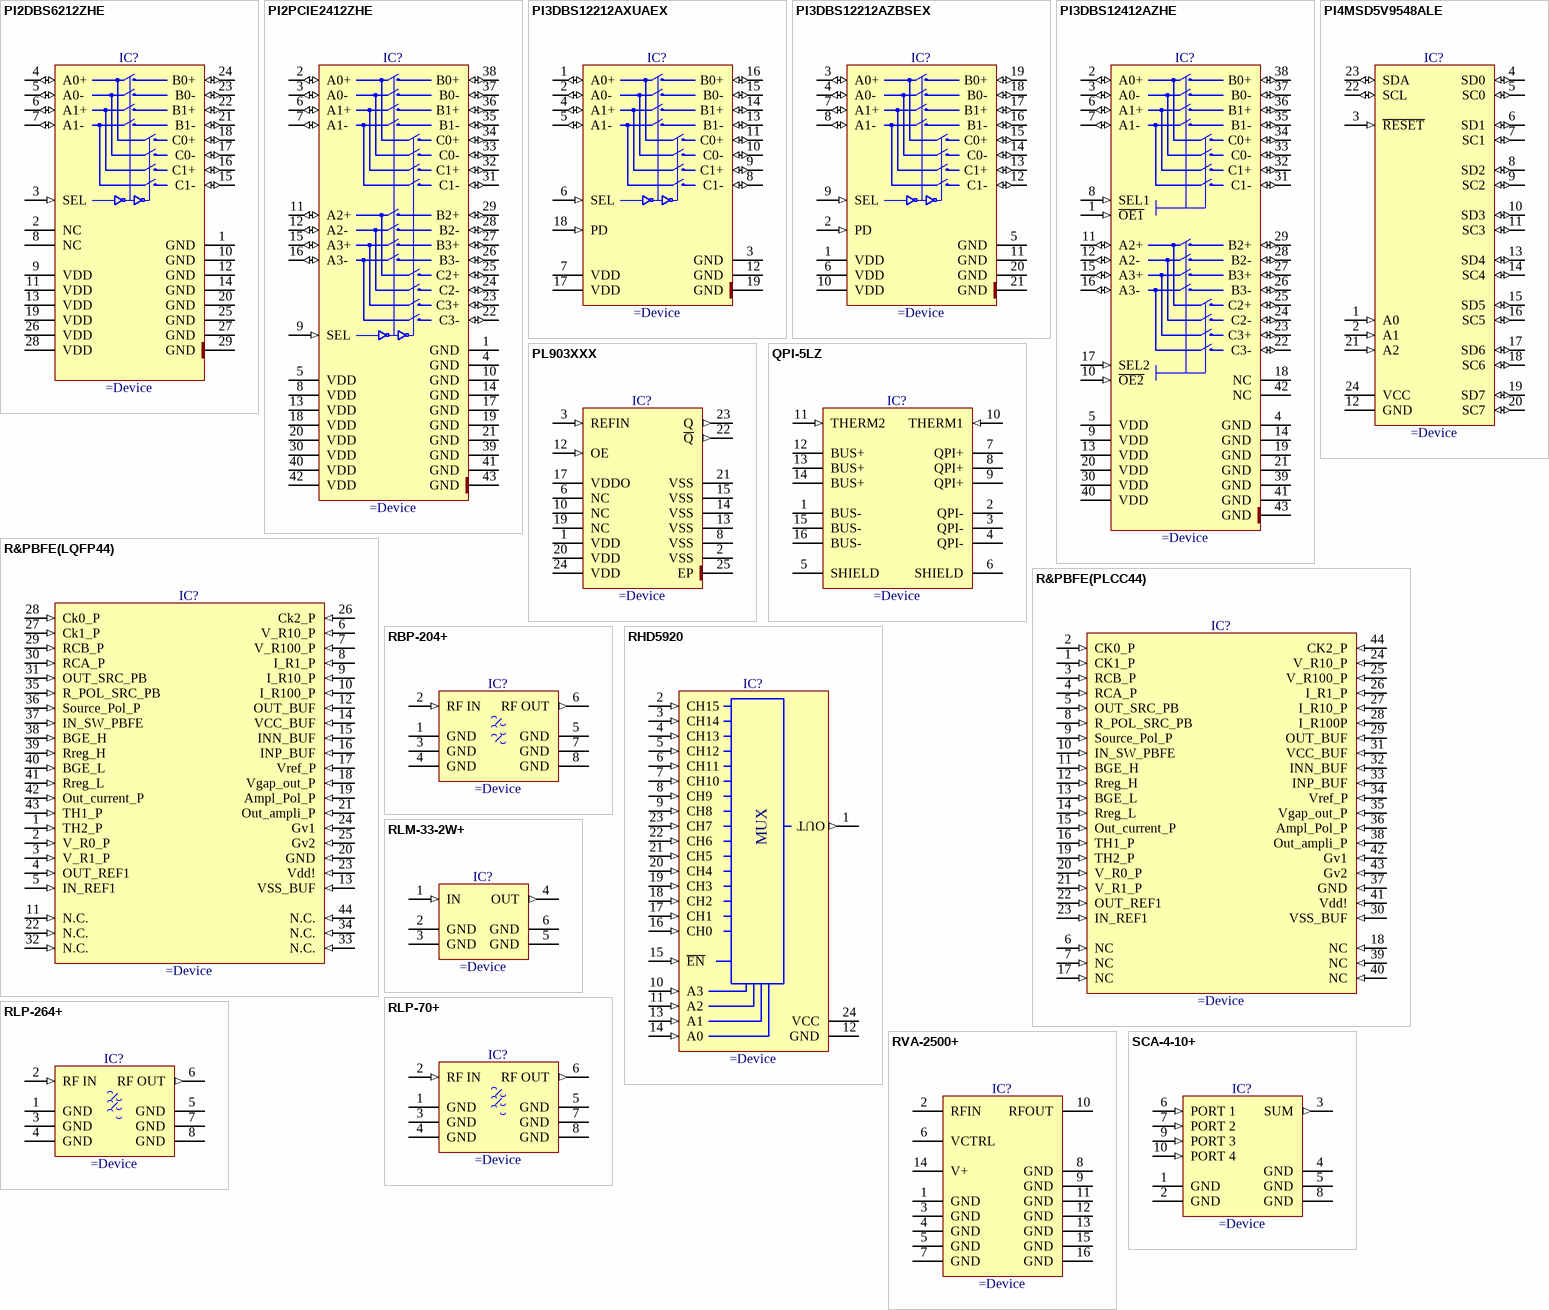
[diagram p55: symbols PI2DBS6212ZHE to SCA-4-10+]

## PI2DBS6212ZHE
designator IC?
1.8V, 6.5 Gpbs SAS2, SATA3, XAU1, 2 Differential Channe, 2:1 Mux/DeMux Switch
pins: 1 GND (power), 2 NC, 3 SEL (in), 4 A0+ (io), 5 A0- (io), 6 A1+ (io), 7 A1- (io), 8 NC, 9 VDD (power), 10 GND (power), 11 VDD (power), 12 GND (power), 13 VDD (power), 14 GND (power), 15 C1- (io), 16 C1+ (io), 17 C0- (io), 18 C0+ (io), 19 VDD (power), 20 GND (power), 21 B1- (io), 22 B1+ (io), 23 B0- (io), 24 B0+ (io), 25 GND (power), 26 VDD (power), 27 GND (power), 28 VDD (power), 29 GND (power)

## PI2PCIE2412ZHE
designator IC?
1.8V, PCI Express Gen2 Compliant, 4-Differential Channel, 2:1 Mux/DeMux Switch
pins: 1 GND (power), 2 A0+ (io), 3 A0- (io), 4 GND (power), 5 VDD (power), 6 A1+ (io), 7 A1- (io), 8 VDD (power), 9 SEL (in), 10 GND (power), 11 A2+ (io), 12 A2- (io), 13 VDD (power), 14 GND (power), 15 A3+ (io), 16 A3- (io), 17 GND (power), 18 VDD (power), 19 GND (power), 20 VDD (power), 21 GND (power), 22 C3- (io), 23 C3+ (io), 24 C2- (io), 25 C2+ (io), 26 B3- (io), 27 B3+ (io), 28 B2- (io), 29 B2+ (io), 30 VDD (power), 31 C1- (io), 32 C1+ (io), 33 C0- (io), 34 C0+ (io), 35 B1- (io), 36 B1+ (io), 37 B0- (io), 38 B0+ (io), 39 GND (power), 40 VDD (power), 41 GND (power), 42 VDD (power), 43 GND (power)

## PI3DBS12212AXUAEX
designator IC?
3.3V, 1-12Gbps 1-Lane 2:1 Mux/De-Mux Switch
pins: 1 A0+ (io), 2 A0- (io), 3 GND (power), 4 A1+ (io), 5 A1- (io), 6 SEL (in), 7 VDD (power), 8 C1- (io), 9 C1+ (io), 10 C0- (io), 11 C0+ (io), 12 GND (power), 13 B1- (io), 14 B1+ (io), 15 B0- (io), 16 B0+ (io), 17 VDD (power), 18 PD (in), 19 GND (power)

## PI3DBS12212AZBSEX
designator IC?
3.3V, 1-12Gbps 1-Lane 2:1 Mux/De-Mux Switch
pins: 1 VDD (power), 2 PD (in), 3 A0+ (io), 4 A0- (io), 5 GND (power), 6 VDD (power), 7 A1+ (io), 8 A1- (io), 9 SEL (in), 10 VDD (power), 11 GND (power), 12 C1- (io), 13 C1+ (io), 14 C0- (io), 15 C0+ (io), 16 B1- (io), 17 B1+ (io), 18 B0- (io), 19 B0+ (io), 20 GND (power), 21 GND (power)

## PI3DBS12412AZHE
designator IC?
3.3V,  PCI Express 3.0, SAS, USB,  4-Differential Channel, 2:1 Mux/DeMux Switch
pins: 1 ~{OE1} (in), 2 A0+ (io), 3 A0- (io), 4 GND (power), 5 VDD (power), 6 A1+ (io), 7 A1- (io), 8 SEL1 (in), 9 VDD (power), 10 ~{OE2} (in), 11 A2+ (io), 12 A2- (io), 13 VDD (power), 14 GND (power), 15 A3+ (io), 16 A3- (io), 17 SEL2 (in), 18 NC, 19 GND (power), 20 VDD (power), 21 GND (power), 22 C3- (io), 23 C3+ (io), 24 C2- (io), 25 C2+ (io), 26 B3- (io), 27 B3+ (io), 28 B2- (io), 29 B2+ (io), 30 VDD (power), 31 C1- (io), 32 C1+ (io), 33 C0- (io), 34 C0+ (io), 35 B1- (io), 36 B1+ (io), 37 B0- (io), 38 B0+ (io), 39 GND (power), 40 VDD (power), 41 GND (power), 42 NC, 43 GND (power)

## PI4MSD5V9548ALE
designator IC?
8 Channel I2C Bus Switch with Reset
pins: 1 A0 (in), 2 A1 (in), 3 ~{RESET} (in), 4 SD0 (io), 5 SC0 (io), 6 SD1 (io), 7 SC1 (io), 8 SD2 (io), 9 SC2 (io), 10 SD3 (io), 11 SC3 (io), 12 GND (power), 13 SD4 (io), 14 SC4 (io), 15 SD5 (io), 16 SC5 (io), 17 SD6 (io), 18 SC6 (io), 19 SD7 (io), 20 SC7 (io), 21 A2 (in), 22 SCL (io), 23 SDA (io), 24 VCC (power)

## PL903XXX
designator IC?
Factory-Programmable Jitter Attenuator
pins: 1 VDD (power), 2 VSS (power), 3 REFIN (in), 6 NC, 8 VSS (power), 10 NC, 12 OE (in), 13 VSS (power), 14 VSS (power), 15 VSS (power), 17 VDDO (power), 19 NC, 20 VDD (power), 21 VSS (power), 22 ~{Q} (out), 23 Q (out), 24 VDD (power), 25 EP (power)

## QPI-5LZ
designator IC?
14 A Active EMI Filter SIP for 24 Vdc Bus
pins: 1 BUS- (power), 2 QPI- (power), 3 QPI- (power), 4 QPI- (power), 5 SHIELD (power), 6 SHIELD (power), 7 QPI+ (power), 8 QPI+ (power), 9 QPI+ (power), 10 THERM1 (in), 11 THERM2 (in), 12 BUS+ (power), 13 BUS+ (power), 14 BUS+ (power), 15 BUS- (power), 16 BUS- (power)

## R&PBFE(LQFP44)
designator IC?
Resistance & Pressure Bridge Front End (LQFP44 CERN ASIC)
pins: 1 TH2_P (in), 2 V_R0_P (in), 3 V_R1_P (in), 4 OUT_REF1 (in), 5 IN_REF1 (in), 6 V_R10_P (in), 7 V_R100_P (in), 8 I_R1_P (in), 9 I_R10_P (in), 10 I_R100_P (in), 11 N.C. (in), 12 OUT_BUF (in), 13 VSS_BUF (in), 14 VCC_BUF (in), 15 INN_BUF (in), 16 INP_BUF (in), 17 Vref_P (in), 18 Vgap_out_P (in), 19 Ampl_Pol_P (in), 20 GND (in), 21 Out_ampli_P (in), 22 N.C. (in), 23 Vdd! (in), 24 Gv1 (in), 25 Gv2 (in), 26 Ck2_P (in), 27 Ck1_P (in), 28 Ck0_P (in), 29 RCB_P (in), 30 RCA_P (in), 31 OUT_SRC_PB (in), 32 N.C. (in), 33 N.C. (in), 34 N.C. (in), 35 R_POL_SRC_PB (in), 36 Source_Pol_P (in), 37 IN_SW_PBFE (in), 38 BGE_H (in), 39 Rreg_H (in), 40 BGE_L (in), 41 Rreg_L (in), 42 Out_current_P (in), 43 TH1_P (in), 44 N.C. (in)

## R&PBFE(PLCC44)
designator IC?
Resistance & Pressure Bridge Front End (PLCC44 CERN ASIC)
pins: 1 CK1_P (in), 2 CK0_P (in), 3 RCB_P (in), 4 RCA_P (in), 5 OUT_SRC_PB (in), 6 NC (in), 7 NC (in), 8 R_POL_SRC_PB (in), 9 Source_Pol_P (in), 10 IN_SW_PBFE (in), 11 BGE_H (in), 12 Rreg_H (in), 13 BGE_L (in), 14 Rreg_L (in), 15 Out_current_P (in), 16 TH1_P (in), 17 NC (in), 18 NC (in), 19 TH2_P (in), 20 V_R0_P (in), 21 V_R1_P (in), 22 OUT_REF1 (in), 23 IN_REF1 (in), 24 V_R10_P (in), 25 V_R100_P (in), 26 I_R1_P (in), 27 I_R10_P (in), 28 I_R100P (in), 29 OUT_BUF (in), 30 VSS_BUF (in), 31 VCC_BUF (in), 32 INN_BUF (in), 33 INP_BUF (in), 34 Vref_P (in), 35 Vgap_out_P (in), 36 Ampl_Pol_P (in), 37 GND (in), 38 Out_ampli_P (in), 39 NC (in), 40 NC (in), 41 Vdd! (in), 42 Gv1 (in), 43 Gv2 (in), 44 CK2_P (in)

## RBP-204+
designator IC?
175 to 237MHz 50 Ohms Bandpass Filter
pins: 1 GND (power), 2 RF IN (in), 3 GND (power), 4 GND (power), 5 GND (power), 6 RF OUT (out), 7 GND (power), 8 GND (power)

## RHD5920
designator IC?
RadHard-by-Design, 16-Channel Analog Multiplexer
pins: 1 VOUT (out), 2 CH15 (in), 3 CH14 (in), 4 CH13 (in), 5 CH12 (in), 6 CH11 (in), 7 CH10 (in), 8 CH9 (in), 9 CH8 (in), 10 A3 (in), 11 A2 (in), 12 GND (power), 13 A1 (in), 14 A0 (in), 15 ~{EN} (in), 16 CH0 (in), 17 CH1 (in), 18 CH2 (in), 19 CH3 (in), 20 CH4 (in), 21 CH5 (in), 22 CH6 (in), 23 CH7 (in), 24 VCC (power)
text: MUX; OUT

## RLM-33-2W+
designator IC?
50 Ohm, 0.2 to 3000MHz, +12 to +33dBm Limiter
pins: 1 IN (in), 2 GND (power), 3 GND (power), 4 OUT (out), 5 GND (power), 6 GND (power)

## RLP-70+
designator IC?
DC to 70MHz 50 OHM Low Pass Filter
pins: 1 GND (power), 2 RF IN (in), 3 GND (power), 4 GND (power), 5 GND (power), 6 RF OUT (out), 7 GND (power), 8 GND (power)

## RLP-264+
designator IC?
DC to 264MHz 50 OHM Low Pass Filter
pins: 1 GND (power), 2 RF IN (in), 3 GND (power), 4 GND (power), 5 GND (power), 6 RF OUT (out), 7 GND (power), 8 GND (power)

## RVA-2500+
designator IC?
10 to 2500MHz, 50 Ohms Voltage Variable Attenuator
pins: 1 GND (power), 2 RFIN (power), 3 GND (power), 4 GND (power), 5 GND (power), 6 VCTRL (power), 7 GND (power), 8 GND (power), 9 GND (power), 10 RFOUT (power), 11 GND (power), 12 GND (power), 13 GND (power), 14 V+ (power), 15 GND (power), 16 GND (power)

## SCA-4-10+
designator IC?
4 Way-0°, 50 Ohms, 5 to 1000MHz, Power Splitter/Combiner
pins: 1 GND (power), 2 GND (power), 3 SUM (out), 4 GND (power), 5 GND (power), 6 PORT 1 (in), 7 PORT 2 (in), 8 GND (power), 9 PORT 3 (in), 10 PORT 4 (in)

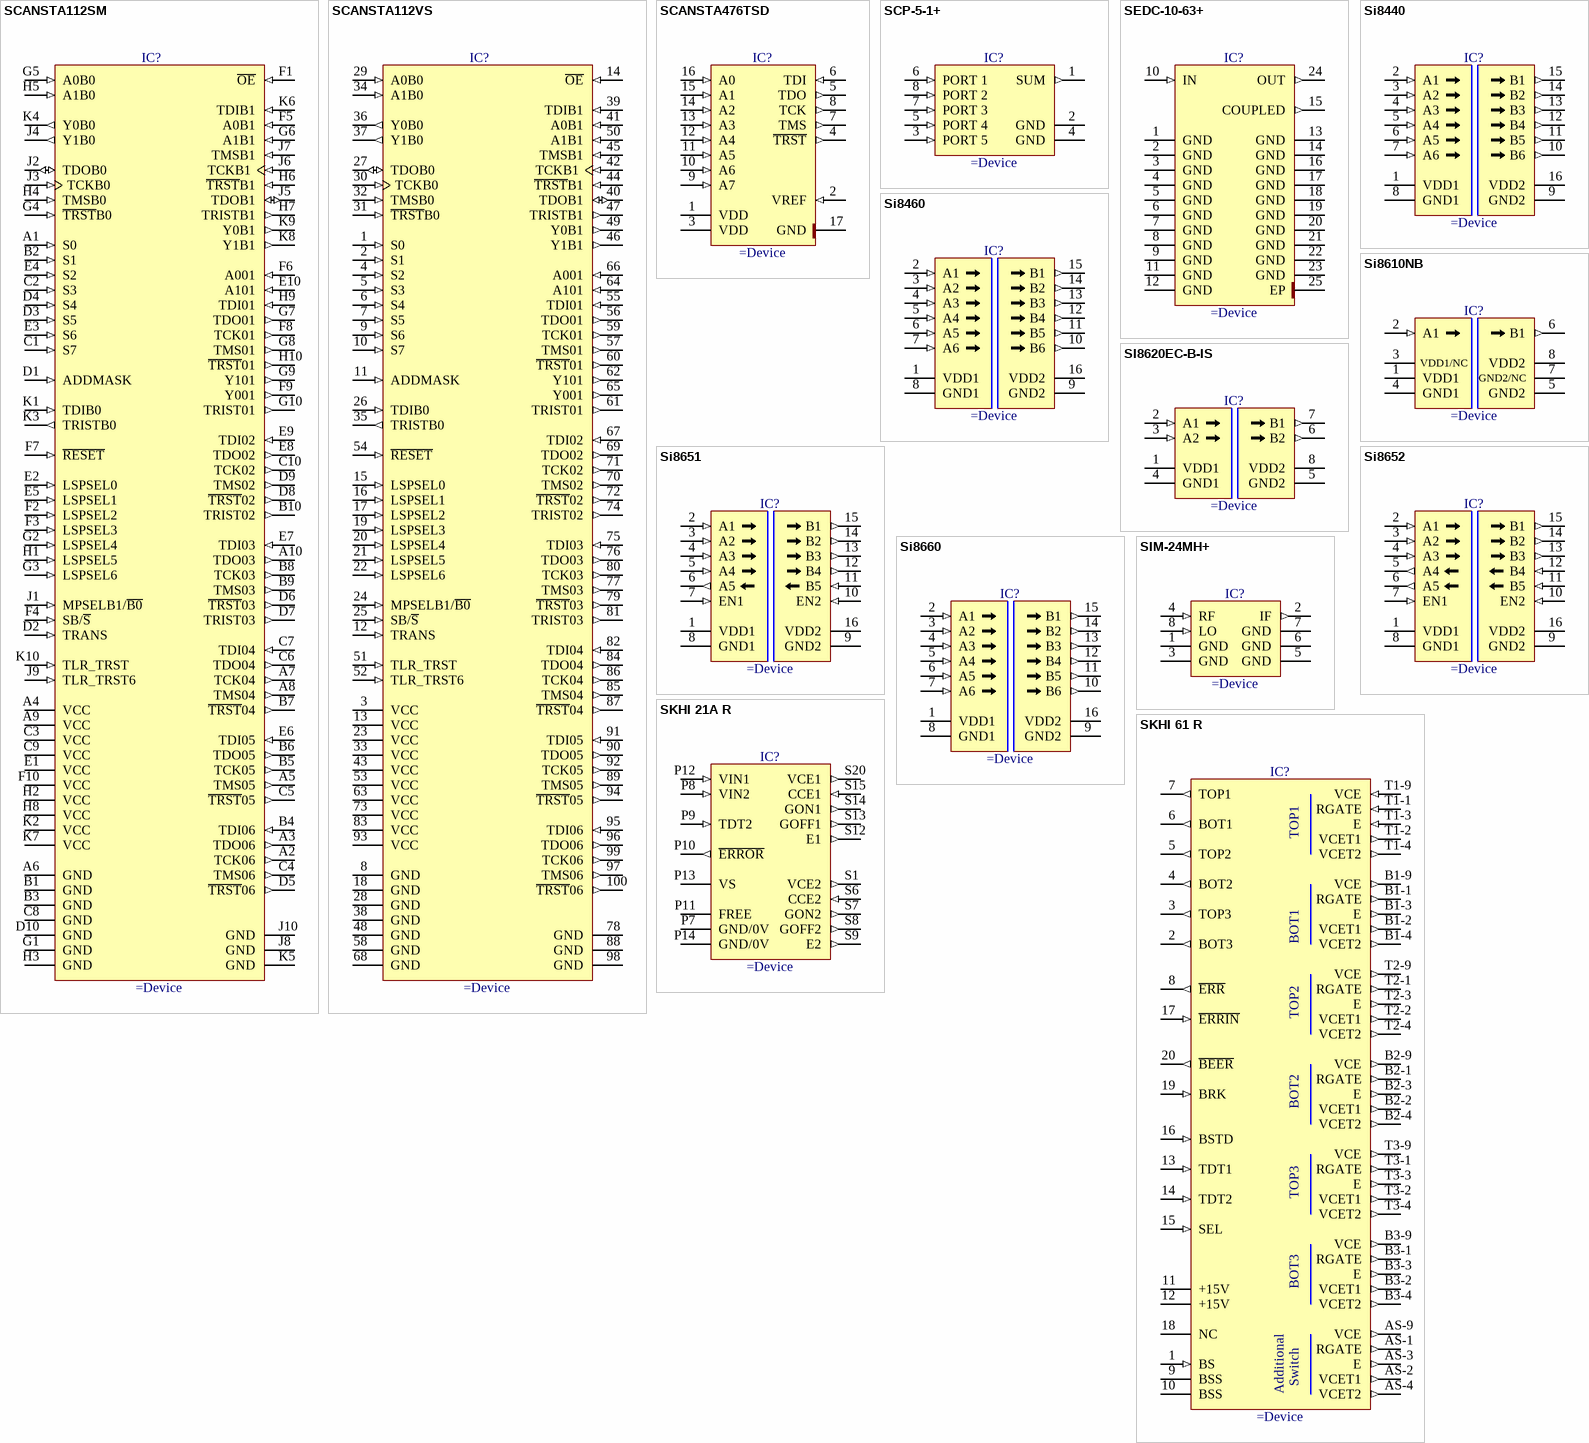
[diagram p56: symbols SCANSTA112SM to SKHI 61 R]

## SCANSTA112SM
designator IC?
7-Port Multidrop IEEE 1149.1 (JTAG) Multiplexer
pins: A1 S0 (in), A2 TCK06 (out), A3 TDO06 (out), A4 VCC (power), A5 TMS05 (out), A6 GND (power), A7 TCK04 (out), A8 TMS04 (out), A9 VCC (power), A10 TDO03 (out), B1 GND (power), B2 S1 (in), B3 GND (power), B4 TDI06 (in), B5 TCK05 (out), B6 TDO05 (out), B7 ~{TRST}04 (out), B8 TCK03 (out), B9 TMS03 (out), B10 TRIST02 (out), C1 S7 (in), C2 S3 (in), C3 VCC (power), C4 TMS06 (out), C5 ~{TRST}05 (out), C6 TDO04 (out), C7 TDI04 (in), C8 GND (power), C9 VCC (power), C10 TCK02 (out), D1 ADDMASK (in), D2 TRANS (in), D3 S5 (in), D4 S4 (in), D5 ~{TRST}06 (out), D6 ~{TRST}03 (out), D7 TRIST03 (out), D8 ~{TRST}02 (out), D9 TMS02 (out), D10 GND (power), E1 VCC (power), E2 LSPSEL0 (in), E3 S6 (in), E4 S2 (in), E5 LSPSEL1 (in), E6 TDI05 (in), E7 TDI03 (in), E8 TDO02 (out), E9 TDI02 (in), E10 A101 (in), F1 ~{OE} (in), F2 LSPSEL2 (in), F3 LSPSEL3 (in), F4 SB/~{S} (in), F5 A0B1 (in), F6 A001 (in), F7 ~{RESET} (in), F8 TCK01 (out), F9 Y001 (out), F10 VCC (power), G1 GND (power), G2 LSPSEL4 (in), G3 LSPSEL6 (in), G4 ~{TRST}B0 (in), G5 A0B0 (in), G6 A1B1 (in), G7 TDO01 (out), G8 TMS01 (out), G9 Y101 (out), G10 TRIST01 (out), H1 LSPSEL5 (in), H2 VCC (power), H3 GND (power), H4 TMSB0 (in), H5 A1B0 (in), H6 ~{TRST}B1 (in), H7 TRISTB1 (out), H8 VCC (power), H9 TDI01 (in), H10 ~{TRST}01 (out), J1 MPSELB1/~{B0} (in), J2 TDOB0 (io), J3 TCKB0 (in), J4 Y1B0 (out), J5 TDOB1 (io), J6 TCKB1 (in), J7 TMSB1 (in), J8 GND (power), J9 TLR_TRST6 (in), J10 GND (power), K1 TDIB0 (in), K2 VCC (power), K3 TRISTB0 (out), K4 Y0B0 (out), K5 GND (power), K6 TDIB1 (in), K7 VCC (power), K8 Y1B1 (out), K9 Y0B1 (out), K10 TLR_TRST (in)

## SCANSTA112VS
designator IC?
7-Port Multidrop IEEE 1149.1 (JTAG) Multiplexer
pins: 1 S0 (in), 2 S1 (in), 3 VCC (power), 4 S2 (in), 5 S3 (in), 6 S4 (in), 7 S5 (in), 8 GND (power), 9 S6 (in), 10 S7 (in), 11 ADDMASK (in), 12 TRANS (in), 13 VCC (power), 14 ~{OE} (in), 15 LSPSEL0 (in), 16 LSPSEL1 (in), 17 LSPSEL2 (in), 18 GND (power), 19 LSPSEL3 (in), 20 LSPSEL4 (in), 21 LSPSEL5 (in), 22 LSPSEL6 (in), 23 VCC (power), 24 MPSELB1/~{B0} (in), 25 SB/~{S} (in), 26 TDIB0 (in), 27 TDOB0 (io), 28 GND (power), 29 A0B0 (in), 30 TCKB0 (in), 31 ~{TRST}B0 (in), 32 TMSB0 (in), 33 VCC (power), 34 A1B0 (in), 35 TRISTB0 (out), 36 Y0B0 (out), 37 Y1B0 (out), 38 GND (power), 39 TDIB1 (in), 40 TDOB1 (io), 41 A0B1 (in), 42 TCKB1 (in), 43 VCC (power), 44 ~{TRST}B1 (in), 45 TMSB1 (in), 46 Y1B1 (out), 47 TRISTB1 (out), 48 GND (power), 49 Y0B1 (out), 50 A1B1 (in), 51 TLR_TRST (in), 52 TLR_TRST6 (in), 53 VCC (power), 54 ~{RESET} (in), 55 TDI01 (in), 56 TDO01 (out), 57 TMS01 (out), 58 GND (power), 59 TCK01 (out), 60 ~{TRST}01 (out), 61 TRIST01 (out), 62 Y101 (out), 63 VCC (power), 64 A101 (in), 65 Y001 (out), 66 A001 (in), 67 TDI02 (in), 68 GND (power), 69 TDO02 (out), 70 TMS02 (out), 71 TCK02 (out), 72 ~{TRST}02 (out), 73 VCC (power), 74 TRIST02 (out), 75 TDI03 (in), 76 TDO03 (out), 77 TMS03 (out), 78 GND (power), 79 ~{TRST}03 (out), 80 TCK03 (out), 81 TRIST03 (out), 82 TDI04 (in), 83 VCC (power), 84 TDO04 (out), 85 TMS04 (out), 86 TCK04 (out), 87 ~{TRST}04 (out), 88 GND (power), 89 TMS05 (out), 90 TDO05 (out), 91 TDI05 (in), 92 TCK05 (out), 93 VCC (power), 94 ~{TRST}05 (out), 95 TDI06 (in), 96 TDO06 (out), 97 TMS06 (out), 98 GND (power), 99 TCK06 (out), 100 ~{TRST}06 (out)

## SCANSTA476TSD
designator IC?
Eight Input IEEE 1149.1 Analog Voltage Monitor
pins: 1 VDD (power), 2 VREF (in), 3 VDD (power), 4 ~{TRST} (out), 5 TDO (out), 6 TDI (in), 7 TMS (out), 8 TCK (out), 9 A7 (in), 10 A6 (in), 11 A5 (in), 12 A4 (in), 13 A3 (in), 14 A2 (in), 15 A1 (in), 16 A0 (in), 17 GND (power)

## SCP-5-1+
designator IC?
5 Way-0°, 50 Ohms, 2 to 200MHz, Power Splitter/Combiner
pins: 1 SUM (out), 2 GND (power), 3 PORT 5 (in), 4 GND (power), 5 PORT 4 (in), 6 PORT 1 (in), 7 PORT 3 (in), 8 PORT 2 (in)

## SEDC-10-63+
designator IC?
Directional Coupler, 50 Ohms, 10dB Coupling, 50 to 6000MHz
pins: 1 GND (power), 2 GND (power), 3 GND (power), 4 GND (power), 5 GND (power), 6 GND (power), 7 GND (power), 8 GND (power), 9 GND (power), 10 IN (in), 11 GND (power), 12 GND (power), 13 GND (power), 14 GND (power), 15 COUPLED (out), 16 GND (power), 17 GND (power), 18 GND (power), 19 GND (power), 20 GND (power), 21 GND (power), 22 GND (power), 23 GND (power), 24 OUT (out), 25 EP (power)

## Si8440
designator IC?
Low Power Quad-Channel Digital Isolator
pins: 1 VDD1 (power), 2 A1 (in), 3 A2 (in), 4 A3 (in), 5 A4 (in), 6 A5 (in), 7 A6 (in), 8 GND1 (power), 9 GND2 (power), 10 B6 (out), 11 B5 (out), 12 B4 (out), 13 B3 (out), 14 B2 (out), 15 B1 (out), 16 VDD2 (power)

## Si8460
designator IC?
ISOpro Low Power Six-Channel Digital Isolator
pins: 1 VDD1 (power), 2 A1 (in), 3 A2 (in), 4 A3 (in), 5 A4 (in), 6 A5 (in), 7 A6 (in), 8 GND1 (power), 9 GND2 (power), 10 B6 (out), 11 B5 (out), 12 B4 (out), 13 B3 (out), 14 B2 (out), 15 B1 (out), 16 VDD2 (power)

## Si8610NB
designator IC?
Low Power Single-Channel Digital Isolator
pins: 1 VDD1 (power), 2 A1 (in), 3 VDD1/NC, 4 GND1 (power), 5 GND2 (power), 6 B1 (out), 7 GND2/NC, 8 VDD2 (power)

## SI8620EC-B-IS
designator IC?
Low Power Dual-Channel Digital Isolator
pins: 1 VDD1 (power), 2 A1 (in), 3 A2 (in), 4 GND1 (power), 5 GND2 (power), 6 B2 (out), 7 B1 (out), 8 VDD2 (power)

## Si8651
designator IC?
Low Power Five-Channel Digital Isolator
pins: 1 VDD1 (power), 2 A1 (in), 3 A2 (in), 4 A3 (in), 5 A4 (in), 6 A5 (out), 7 EN1 (in), 8 GND1 (power), 9 GND2 (power), 10 EN2 (in), 11 B5 (in), 12 B4 (out), 13 B3 (out), 14 B2 (out), 15 B1 (out), 16 VDD2 (power)

## Si8652
designator IC?
Low Power Five-Channel Digital Isolator
pins: 1 VDD1 (power), 2 A1 (in), 3 A2 (in), 4 A3 (in), 5 A4 (out), 6 A5 (out), 7 EN1 (in), 8 GND1 (power), 9 GND2 (power), 10 EN2 (in), 11 B5 (in), 12 B4 (in), 13 B3 (out), 14 B2 (out), 15 B1 (out), 16 VDD2 (power)

## Si8660
designator IC?
Low Power Six-Channel Digital Isolator
pins: 1 VDD1 (power), 2 A1 (in), 3 A2 (in), 4 A3 (in), 5 A4 (in), 6 A5 (in), 7 A6 (in), 8 GND1 (power), 9 GND2 (power), 10 B6 (out), 11 B5 (out), 12 B4 (out), 13 B3 (out), 14 B2 (out), 15 B1 (out), 16 VDD2 (power)

## SIM-24MH+
designator IC?
Frequency Mixer - Level 13 (LO Power +13 dBm) 7300 to 20000 MHz
pins: 1 GND (power), 2 IF (out), 3 GND (power), 4 RF (in), 5 GND (power), 6 GND (power), 7 GND (power), 8 LO (in)

## SKHI 21A R
designator IC?
1200V/8A Hybrid Dual MOSFET Driver
pins: P7 GND/0V (power), P8 VIN2 (in), P9 TDT2 (in), P10 ~{ERROR} (out), P11 FREE, P12 VIN1 (in), P13 VS (power), P14 GND/0V (power), S1 VCE2 (out), S6 CCE2 (in), S7 GON2 (out), S8 GOFF2 (out), S9 E2 (out), S12 E1 (out), S13 GOFF1 (out), S14 GON1 (out), S15 CCE1 (in), S20 VCE1 (out)

## SKHI 61 R
designator IC?
Sixpack IGBT and MOSFET Driver
pins: 1 BS (in), 2 BOT3 (out), 3 TOP3 (out), 4 BOT2 (out), 5 TOP2 (out), 6 BOT1 (out), 7 TOP1 (out), 8 ~{ERR} (out), 9 BSS (power), 10 BSS (power), 11 +15V (power), 12 +15V (power), 13 TDT1 (in), 14 TDT2 (in), 15 SEL (in), 16 BSTD (in), 17 ~{ERRIN} (in), 18 NC, 19 BRK (in), 20 ~{BEER} (out), AS-1 RGATE (out), AS-2 VCET1 (out), AS-3 E (out), AS-4 VCET2 (out), AS-9 VCE (out), B1-1 RGATE (out), B1-2 VCET1 (out), B1-3 E (out), B1-4 VCET2 (out), B1-9 VCE (out), B2-1 RGATE (out), B2-2 VCET1 (out), B2-3 E (out), B2-4 VCET2 (out), B2-9 VCE (out), B3-1 RGATE (out), B3-2 VCET1 (out), B3-3 E (out), B3-4 VCET2 (out), B3-9 VCE (out), T1-1 RGATE (in), T1-2 VCET1 (out), T1-3 E (in), T1-4 VCET2 (out), T1-9 VCE (in), T2-1 RGATE (out), T2-2 VCET1 (out), T2-3 E (out), T2-4 VCET2 (out), T2-9 VCE (out), T3-1 RGATE (out), T3-2 VCET1 (out), T3-3 E (out), T3-4 VCET2 (out), T3-9 VCE (out)
text: Switch; Additional

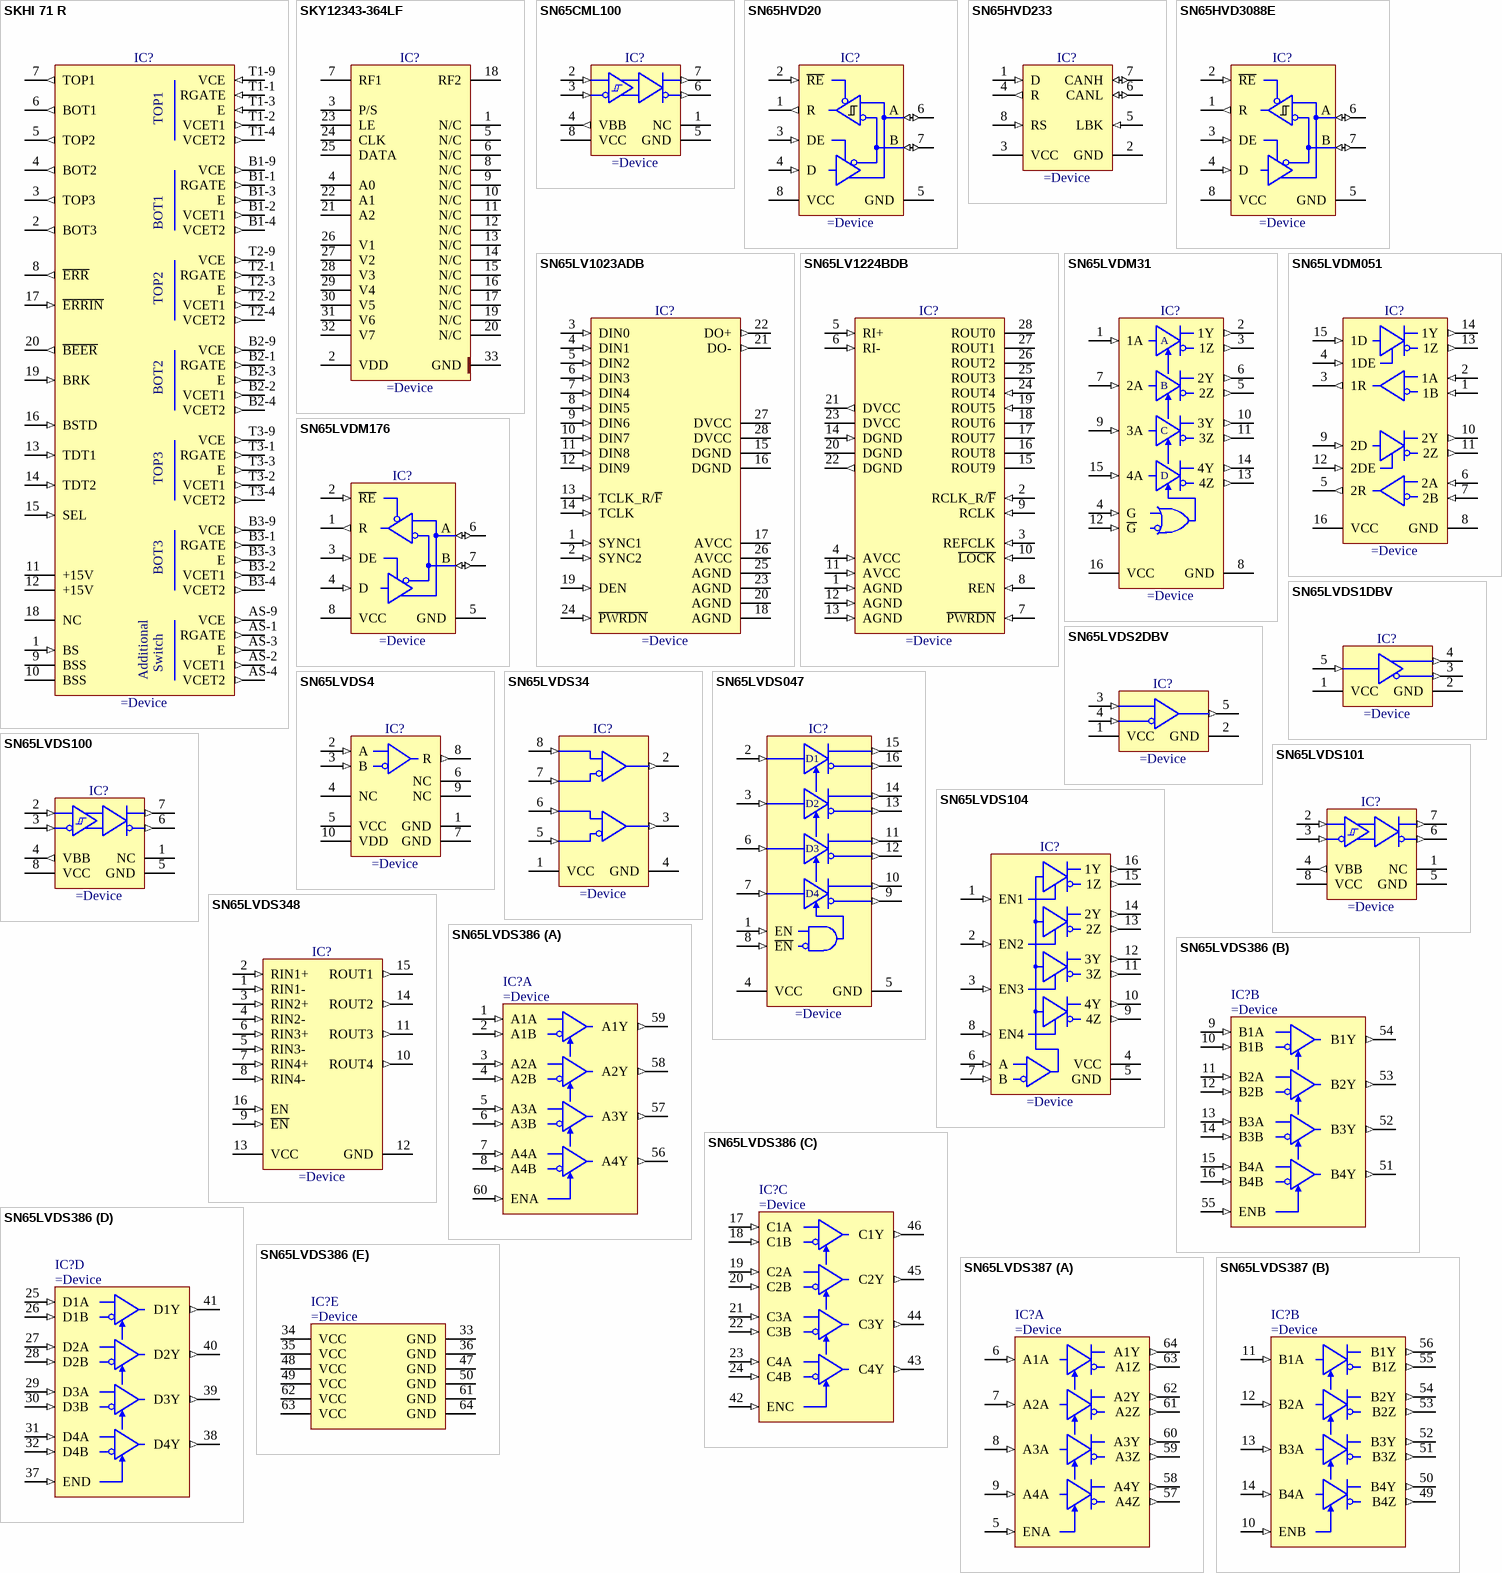
[diagram p57: symbols SKHI 71 R to SN65LVDS387]

## SKHI 71 R
designator IC?
Sevenpack IGBT and MOSFET Driver
pins: 1 BS (in), 2 BOT3 (out), 3 TOP3 (out), 4 BOT2 (out), 5 TOP2 (out), 6 BOT1 (out), 7 TOP1 (out), 8 ~{ERR} (out), 9 BSS (power), 10 BSS (power), 11 +15V (power), 12 +15V (power), 13 TDT1 (in), 14 TDT2 (in), 15 SEL (in), 16 BSTD (in), 17 ~{ERRIN} (in), 18 NC, 19 BRK (in), 20 ~{BEER} (out), AS-1 RGATE (out), AS-2 VCET1 (out), AS-3 E (out), AS-4 VCET2 (out), AS-9 VCE (out), B1-1 RGATE (out), B1-2 VCET1 (out), B1-3 E (out), B1-4 VCET2 (out), B1-9 VCE (out), B2-1 RGATE (out), B2-2 VCET1 (out), B2-3 E (out), B2-4 VCET2 (out), B2-9 VCE (out), B3-1 RGATE (out), B3-2 VCET1 (out), B3-3 E (out), B3-4 VCET2 (out), B3-9 VCE (out), T1-1 RGATE (in), T1-2 VCET1 (out), T1-3 E (in), T1-4 VCET2 (out), T1-9 VCE (in), T2-1 RGATE (out), T2-2 VCET1 (out), T2-3 E (out), T2-4 VCET2 (out), T2-9 VCE (out), T3-1 RGATE (out), T3-2 VCET1 (out), T3-3 E (out), T3-4 VCET2 (out), T3-9 VCE (out)
text: Switch; Additional

## SKY12343-364LF
designator IC?
0.01 - 4.0 GHz Seven-Bit Digital Attenuator with Serial and Parallel Drivers
pins: 1 N/C, 2 VDD, 3 P/S, 4 A0, 5 N/C, 6 N/C, 7 RF1, 8 N/C, 9 N/C, 10 N/C, 11 N/C, 12 N/C, 13 N/C, 14 N/C, 15 N/C, 16 N/C, 17 N/C, 18 RF2, 19 N/C, 20 N/C, 21 A2, 22 A1, 23 LE, 24 CLK, 25 DATA, 26 V1, 27 V2, 28 V3, 29 V4, 30 V5, 31 V6, 32 V7, 33 GND (power)

## SN65CML100
designator IC?
1.5-Gbps LVDS/LVPECL/CML-TO-CML Translator/Repeater
pins: 1 NC, 2 A (in), 3 B (in), 4 VBB (out), 5 GND (power), 6 Z (out), 7 Y (out), 8 VCC (power)

## SN65HVD20
designator IC?
Extended Common-Mode RS-485 Transceiver
pins: 1 R (out), 2 ~{RE} (in), 3 DE (in), 4 D (in), 5 GND (power), 6 A (io), 7 B (io), 8 VCC (power)

## SN65HVD233
designator IC?
3.3V CAN Bus Transceiver
pins: 1 D (in), 2 GND (power), 3 VCC (power), 4 R (out), 5 LBK (in), 6 CANL (io), 7 CANH (io), 8 RS (in)

## SN65HVD3088E
designator IC?
Low-Power RS-485 Transceiver
pins: 1 R (out), 2 ~{RE} (in), 3 DE (in), 4 D (in), 5 GND (power), 6 A (io), 7 B (io), 8 VCC (power)

## SN65LV1023ADB
designator IC?
10-MHz to 66-MHz, 10:1 LVDS Serializer
pins: 1 SYNC1 (in), 2 SYNC2 (in), 3 DIN0 (in), 4 DIN1 (in), 5 DIN2 (in), 6 DIN3 (in), 7 DIN4 (in), 8 DIN5 (in), 9 DIN6 (in), 10 DIN7 (in), 11 DIN8 (in), 12 DIN9 (in), 13 TCLK_R/~{F} (in), 14 TCLK (in), 15 DGND (power), 16 DGND (power), 17 AVCC (power), 18 AGND (power), 19 DEN (in), 20 AGND (power), 21 DO- (out), 22 DO+ (out), 23 AGND (power), 24 ~{PWRDN} (in), 25 AGND (power), 26 AVCC (power), 27 DVCC (power), 28 DVCC (power)

## SN65LV1224BDB
designator IC?
10-MHz to 66-MHz, 1:10 LVDS Deserializer
pins: 1 AGND (in), 2 RCLK_R/~{F} (in), 3 REFCLK (in), 4 AVCC (in), 5 RI+ (in), 6 RI- (in), 7 ~{PWRDN} (in), 8 REN (in), 9 RCLK (in), 10 ~{LOCK} (in), 11 AVCC (in), 12 AGND (in), 13 AGND (in), 14 DGND (in), 15 ROUT9 (power), 16 ROUT8 (power), 17 ROUT7 (power), 18 ROUT6 (power), 19 ROUT5 (in), 20 DGND (power), 21 DVCC (out), 22 DGND (out), 23 DVCC (power), 24 ROUT4 (in), 25 ROUT3 (power), 26 ROUT2 (power), 27 ROUT1 (power), 28 ROUT0 (power)

## SN65LVDM31
designator IC?
Quad High Speed Differential Line Driver
pins: 1 1A (in), 2 1Y (out), 3 1Z (out), 4 G (in), 5 2Z (out), 6 2Y (out), 7 2A (in), 8 GND (power), 9 3A (in), 10 3Y (out), 11 3Z (out), 12 ~{G} (in), 13 4Z (out), 14 4Y (out), 15 4A (in), 16 VCC (power)
text: A; B; C; D

## SN65LVDM051
designator IC?
High-Speed Differential Line Drivers And Receivers
pins: 1 1B (in), 2 1A (in), 3 1R (out), 4 1DE (in), 5 2R (out), 6 2A (in), 7 2B (in), 8 GND (power), 9 2D (in), 10 2Y (out), 11 2Z (out), 12 2DE (in), 13 1Z (out), 14 1Y (out), 15 1D (in), 16 VCC (power)

## SN65LVDM176
designator IC?
Half-Duplex LVDM Transceiver
pins: 1 R (out), 2 ~{RE} (in), 3 DE (in), 4 D (in), 5 GND (power), 6 A (io), 7 B (io), 8 VCC (power)

## SN65LVDS1DBV
designator IC?
High-Speed Differential Line Driver
pins: 1 VCC (power), 2 GND (power), 3 A (out), 4 B (out), 5 R (in)

## SN65LVDS2DBV
designator IC?
High-Speed Differential Line Receiver
pins: 1 VCC (power), 2 GND (power), 3 A (in), 4 B (in), 5 R (out)

## SN65LVDS4
designator IC?
1.8V High-Speed Differential Line Receiver
pins: 1 GND (power) "Ground", 2 A (in) "LVDS input, positive", 3 B (in) "LVDS input, negative", 4 NC "No connect", 5 VCC (power) "Core supply voltage", 6 NC "No connect", 7 GND (power), 8 R (out) "1.8/2.5 LVCMOS/3.3 LVTTL output", 9 NC "No connect", 10 VDD (power) "Output drive voltage"

## SN65LVDS34
designator IC?
Dual LVDS High-Speed Differential Receiver
pins: 1 VCC (power), 2 1Y (out), 3 2Y (out), 4 GND (power), 5 2B (in), 6 2A (in), 7 1B (in), 8 1A (in)

## SN65LVDS047
designator IC?
LVDS Quad Differential Line Driver
pins: 1 EN (in), 2 DIN1 (in), 3 DIN2 (in), 4 VCC (power), 5 GND (power), 6 DIN3 (in), 7 DIN4 (in), 8 ~{EN} (in), 9 DOUT4- (out), 10 DOUT4+ (out), 11 DOUT3+ (out), 12 DOUT3- (out), 13 DOUT2- (out), 14 DOUT2+ (out), 15 DOUT1+ (out), 16 DOUT1- (out)
text: D1; D2; D3; D4

## SN65LVDS100
designator IC?
Differential LVDS Translator/Repeater
pins: 1 NC, 2 A (in), 3 B (in), 4 VBB (out), 5 GND (power), 6 Z (out), 7 Y (out), 8 VCC (power)